# Altium schematic symbol library ADP_MyLib.SchLib: 203 symbols (part 3 of 4)
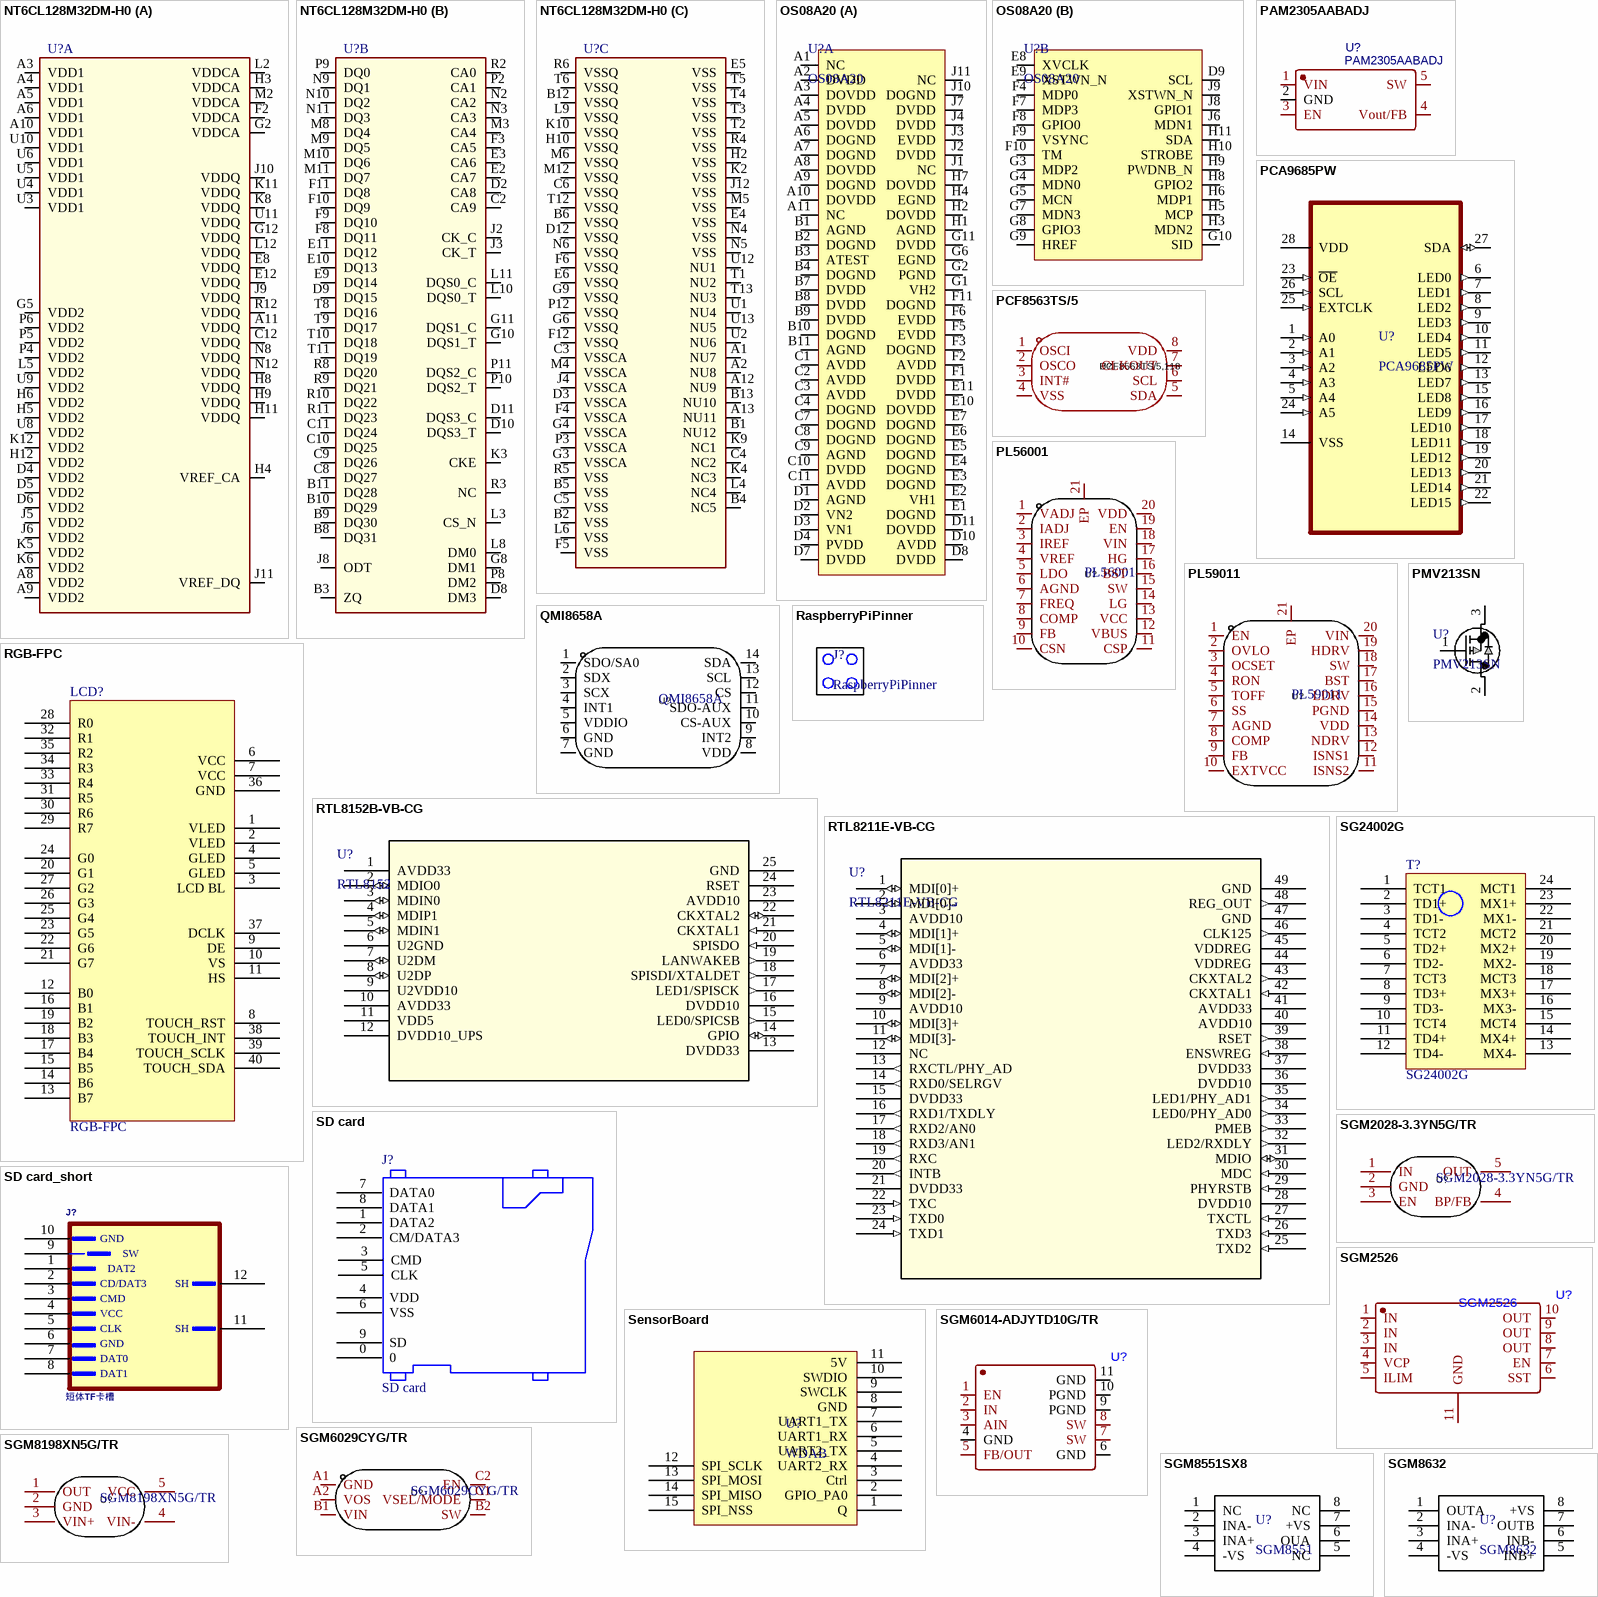
[diagram p24: symbols NT6CL128M32DM-H0 to SGM8632]

## SGM8198XN5G/TR
designator U?
差分检流运放; Manufacturer: SGMICRO(圣邦微); Name: SGM2028-3.3YN5G/TR; Add into BOM: yes; Output Type: 固定; Output Polarity: 正; Number of Outputs: 1; Maximum Input Voltage: 5.5V; Output Voltage: 3.3V; Dropout Voltage: 420mV@(500mA); Output Current: 500mA; Power Supply Rejection Ratio (PSRR): 77dB; Symbol: SGM2028-3.3YN5G/TR; Device: SGM2028-3.3YN5G/TR; LCSC Part Name: 正 Vin=5.5V Vout=3.3V 500mA 77dB; Supplier Part: C81088; Manufacturer Part: SGM2028-3.3YN5G/TR; Supplier Footprint: SOT-23-5; JLCPCB Part Class: Extended Part; Datasheet: https://atta.szlcsc.com/upload/public/pdf/source/20170704/1499151376719.pdf; Supplier: LCSC; Convert to PCB: yes
footprint SOT23-5
pins: 1 OUT, 2 GND, 3 VIN+, 4 VIN-, 5 VCC

## SGM8551SX8
designator U?, comment SGM8551
集成运放
footprint SOIC8
pins: 1 NC, 2 INA- (power), 3 INA+ (power), 4 -VS, 5 NC, 6 OUA, 7 +VS, 8 NC

## SGM8632
designator U?
LNA
footprint SOIC8
pins: 1 OUTA, 2 INA- (power), 3 INA+ (power), 4 -VS, 5 INB+, 6 INB-, 7 OUTB, 8 +VS

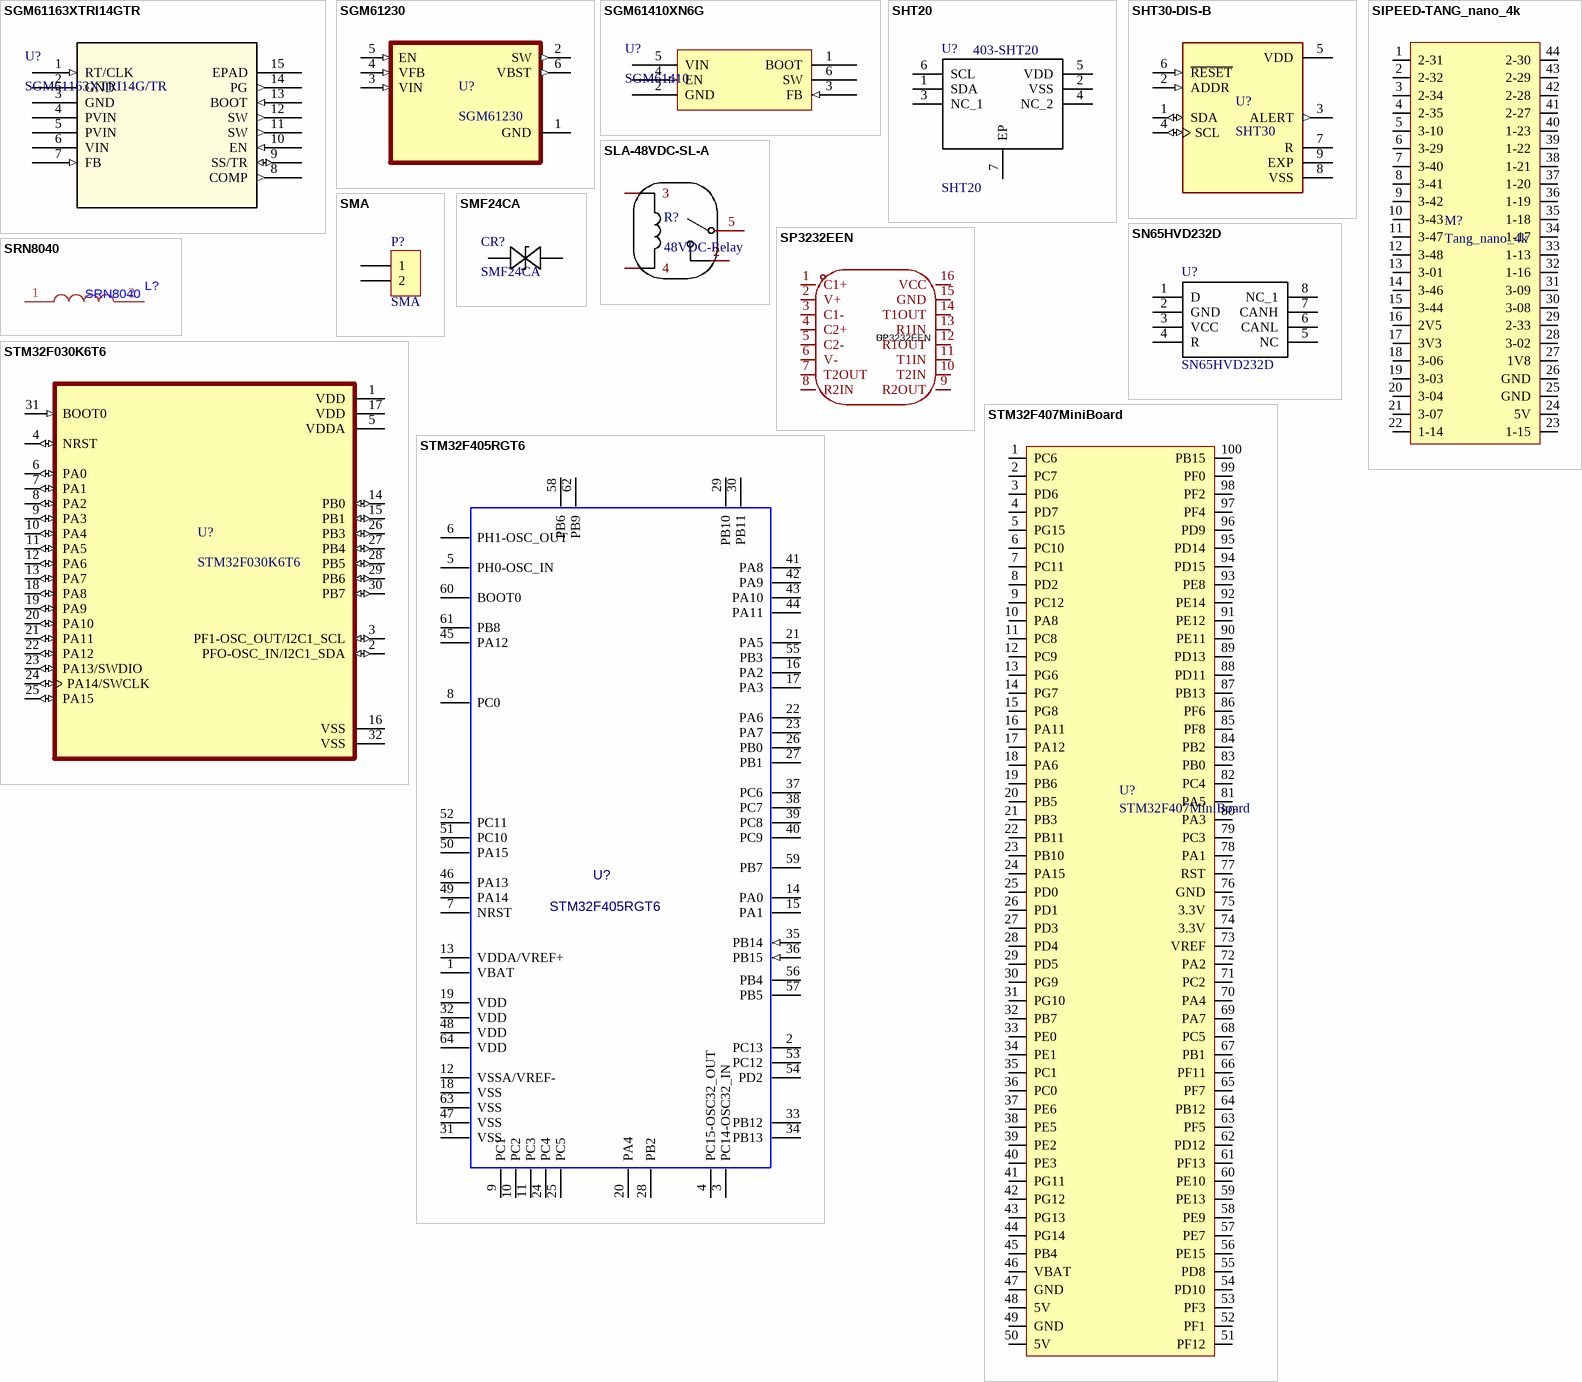
[diagram p14: symbols SGM61163XTRI14GTR to STM32F407MiniBoard]

## SGM61163XTRI14GTR
designator U?, comment SGM61163XTRI14G/TR
Buck; Mfr_Name: SG Micro; Type: DEV; Copyright: Copyright (C) 2023 Ultra Librarian. All rights reserved.; Manufacturer_Part_Number: SGM61163XTRI14G/TR; RefDes: RefDes
footprint TQFN14_SGM61163_SNC
pins: 1 RT/CLK (in), 2 GND (power), 3 GND (power), 4 PVIN (power), 5 PVIN (power), 6 VIN (power), 7 FB (in), 8 COMP (out), 9 SS/TR (io), 10 EN (in), 11 SW (out), 12 SW (out), 13 BOOT (in), 14 PG (out), 15 EPAD (power)

## SGM61230
designator U?
Buck，TPS565208国产替代; MP: TPS565208DDCR; MF: Texas Instruments; SnapEDA_Link: https://www.snapeda.com/parts/TPS565208DDCR/Texas%20Instruments/view-part/1474263/?ref=snap; Digi-Key_Part_Number: 296-48755-1-ND; Value: *; Check_prices: https://www.snapeda.com/parts/TPS565208DDCR/Texas%20Instruments/view-part/1474263/?ref=eda; Package: SOT-23-THN-6 Texas Instruments; Purchase-URL: https://pricing.snapeda.com/search/part/TPS565208DDCR/?ref=eda
footprint SOT23-6 (SOT-23/SC-74A; 5 Leads; Body 3.1 x 3 mm, inc. leads (LxW max))
pins: 1 GND (power), 2 SW (out), 3 VIN (in), 4 VFB (in), 5 EN (in), 6 VBST (out)

## SGM61410XN6G
designator U?, comment SGM61410
1.2MHz, 600mA, 42V Synchronous Buck Converter; ComponentLink1Description: Manufacturer Homepage; ComponentLink1URL: https://www.sg-micro.com/cn/product/SGM61410
footprint SOT23-6 (SOT-23/SC-74A; 5 Leads; Body 3.1 x 3 mm, inc. leads (LxW max))
pins: 1 BOOT (power), 2 GND (power), 3 FB (in), 4 EN (in), 5 VIN (power), 6 SW (power)

## SHT20
designator U?  Mouser Part Number: 403-SHT20
温湿度传感器; Manufacturer_Name: Sensirion; Datasheet Link: https://www.sensirion.com/fileadmin/user_upload/customers/sensirion/Dokumente/2_Humidity_Sensors/Sensirion_Humidity_Sensors_SHT20_Datasheet.pdf; Height: 1.1mm; Manufacturer_Part_Number: SHT20; Mouser Price/Stock: https://www.mouser.com/Search/Refine.aspx?Keyword=403-SHT20; RS Part Number: 1237351P; RS Price/Stock: http://uk.rs-online.com/web/p/products/1237351P
footprint SON100P300X300X110-7N
pins: 1 SDA, 2 VSS, 3 NC_1, 4 NC_2, 5 VDD, 6 SCL, 7 EP

## SHT30-DIS-B
designator U?, comment SHT30
温湿度传感器; MP: SHT30-DIS-B; Package: None; Price: None; Availability: Unavailable; Value: *
footprint DFN250X250X100-9N
pins: 1 SDA (io), 2 ADDR (in), 3 ALERT (out), 4 SCL (io), 5 VDD (power), 6 ~{RESET} (in), 7 R, 8 VSS, 9 EXP

## SIPEED-TANG_nano_4k
designator M?, comment Tang_nano_4k
TANG-nano开发板
footprint SIPEED-TANG_nano_4k
pins: 1 2-31, 2 2-32, 3 2-34, 4 2-35, 5 3-10, 6 3-29, 7 3-40, 8 3-41, 9 3-42, 10 3-43, 11 3-47, 12 3-48, 13 3-01, 14 3-46, 15 3-44, 16 2V5, 17 3V3, 18 3-06, 19 3-03, 20 3-04, 21 3-07, 22 1-14, 23 1-15, 24 5V, 25 GND, 26 GND, 27 1V8, 28 3-02, 29 2-33, 30 3-08, 31 3-09, 32 1-16, 33 1-13, 34 1-17, 35 1-18, 36 1-19, 37 1-20, 38 1-21, 39 1-22, 40 1-23, 41 2-27, 42 2-28, 43 2-29, 44 2-30

## SLA-48VDC-SL-A
designator R?, comment 48VDC-Relay
4/5脚继电器
footprint SLA-48VDC-SL-A
pins: 2, 3, 4, 5

## SMA
designator P?
射频接插件
footprint SMA-ANT (142-0701-801/806)
footprint SMA-H
footprint SMA-W
pins: 1, 2

## SMF24CA
designator CR?
TVS; Mfr_Name: Littelfuse Inc; Type: DEV; Copyright: Copyright (C) 2022 Ultra Librarian. All rights reserved.; Manufacturer_Part_Number: SMF24CA; RefDes: RefDes
footprint SOD123F
pins: 1, 2

## SN65HVD232D
designator U?
3.3-V CAN TRANSCEIVER; Manufacturer_Name: Texas Instruments; Datasheet Link: http://www.ti.com/lit/ds/symlink/sn65hvd232.pdf; Height: 1.75mm; Manufacturer_Part_Number: SN65HVD232D; Mouser Part Number: 595-SN65HVD232D; Mouser Price/Stock: https://www.mouser.com/Search/Refine.aspx?Keyword=595-SN65HVD232D; RS Part Number: 1977506; RS Price/Stock: http://uk.rs-online.com/web/p/products/1977506
footprint SOIC127P600X175-8N
pins: 1 D, 2 GND (power), 3 VCC (power), 4 R, 5 NC, 6 CANL, 7 CANH, 8 NC_1

## SP3232EEN
designator U?
Manufacturer: UMW(友台半导体); Add into BOM: yes; Types: 收发器; Driver/receiver: 2/2; Data Rate: 250Kbps; Supply Voltage: 3V~3.6V；4.5V~5.5V; Symbol: SP3232EEN; Device: SP3232EEN; LCSC Part Name: 3.0V至5.5V低功率多通道RS-232线收发器 使用0.1μF外部电容; Supplier Part: C2904739; Manufacturer Part: SP3232EEN; Supplier Footprint: SOP-16; JLCPCB Part Class: Extended Part; Datasheet: https://atta.szlcsc.com/upload/public/pdf/source/20240122/238E83A7FACD35D5900508085B93A751.pdf; Supplier: LCSC; Convert to PCB: yes; Operating Temperature: 0℃~+70℃
footprint SOP16 (SOP, 16-Leads, Body 9.90x3.90mm, Pitch 1.27mm, IPC Medium Density)
pins: 1 C1+, 2 V+, 3 C1-, 4 C2+, 5 C2-, 6 V-, 7 T2OUT, 8 R2IN, 9 R2OUT, 10 T2IN, 11 T1IN, 12 R1OUT, 13 R1IN, 14 T1OUT, 15 GND, 16 VCC

## SRN8040
designator L?
8040绕线功率电感
footprint SRN80408R2Y
pins: 1, 2

## STM32F030K6T6
designator U?
MF: STMicroelectronics; Check_prices: https://www.snapeda.com/parts/STM32F030K6T6/STMicroelectronics/view-part/?ref=eda; Digi-Key_Part_Number: 497-14046-ND; Package: LQFP-32 STMicroelectronics; MP: STM32F030K6T6; Value: *; SnapEDA_Link: https://www.snapeda.com/parts/STM32F030K6T6/STMicroelectronics/view-part/?ref=snap; Purchase-URL: https://pricing.snapeda.com/search/part/STM32F030K6T6/?ref=eda
footprint LQFP32N (QFP80P900X900X160-32N)
pins: 1 VDD (power), 2 PFO-OSC_IN/I2C1_SDA (io), 3 PF1-OSC_OUT/I2C1_SCL (io), 4 NRST (io), 5 VDDA (power), 6 PA0 (io), 7 PA1 (io), 8 PA2 (io), 9 PA3 (io), 10 PA4 (io), 11 PA5 (io), 12 PA6 (io), 13 PA7 (io), 14 PB0 (io), 15 PB1 (io), 16 VSS (power), 17 VDD (power), 18 PA8 (io), 19 PA9 (io), 20 PA10 (io), 21 PA11 (io), 22 PA12 (io), 23 PA13/SWDIO (io), 24 PA14/SWCLK (io), 25 PA15 (io), 26 PB3 (io), 27 PB4 (io), 28 PB5 (io), 29 PB6 (io), 30 PB7 (io), 31 BOOT0 (in), 32 VSS (power)

## STM32F405RGT6
designator U?
Part No: 3000015; PCB DECAL: STM32F107_LQFP64; Value: STM32F401RBT
footprint QFP50P1200X1200X160-64N
pins: 1 VBAT, 2 PC13, 3 PC14-OSC32_IN, 4 PC15-OSC32_OUT, 5 PH0-OSC_IN, 6 PH1-OSC_OUT, 7 NRST, 8 PC0, 9 PC1, 10 PC2, 11 PC3, 12 VSSA/VREF-, 13 VDDA/VREF+, 14 PA0, 15 PA1, 16 PA2, 17 PA3, 18 VSS, 19 VDD, 20 PA4, 21 PA5, 22 PA6, 23 PA7, 24 PC4, 25 PC5, 26 PB0, 27 PB1, 28 PB2, 29 PB10, 30 PB11, 31 VSS, 32 VDD, 33 PB12, 34 PB13, 35 PB14 (in), 36 PB15 (in), 37 PC6, 38 PC7, 39 PC8, 40 PC9, 41 PA8, 42 PA9, 43 PA10, 44 PA11, 45 PA12, 46 PA13, 47 VSS, 48 VDD, 49 PA14, 50 PA15, 51 PC10, 52 PC11, 53 PC12, 54 PD2, 55 PB3, 56 PB4, 57 PB5, 58 PB6, 59 PB7, 60 BOOT0, 61 PB8, 62 PB9, 63 VSS, 64 VDD

## STM32F407MiniBoard
designator U?
正点原子stm32f407核心板
footprint STM32F407MiniBoard
pins: 1 PC6, 2 PC7, 3 PD6, 4 PD7, 5 PG15, 6 PC10, 7 PC11, 8 PD2, 9 PC12, 10 PA8, 11 PC8, 12 PC9, 13 PG6, 14 PG7, 15 PG8, 16 PA11, 17 PA12, 18 PA6, 19 PB6, 20 PB5, 21 PB3, 22 PB11, 23 PB10, 24 PA15, 25 PD0, 26 PD1, 27 PD3, 28 PD4, 29 PD5, 30 PG9, 31 PG10, 32 PB7, 33 PE0, 34 PE1, 35 PC1, 36 PC0, 37 PE6, 38 PE5, 39 PE2, 40 PE3, 41 PG11, 42 PG12, 43 PG13, 44 PG14, 45 PB4, 46 VBAT, 47 GND, 48 5V, 49 GND, 50 5V, 51 PF12, 52 PF1, 53 PF3, 54 PD10, 55 PD8, 56 PE15, 57 PE7, 58 PE9, 59 PE13, 60 PE10, 61 PF13, 62 PD12, 63 PF5, 64 PB12, 65 PF7, 66 PF11, 67 PB1, 68 PC5, 69 PA7, 70 PA4, 71 PC2, 72 PA2, 73 VREF, 74 3.3V, 75 3.3V, 76 GND, 77 RST, 78 PA1, 79 PC3, 80 PA3, 81 PA5, 82 PC4, 83 PB0, 84 PB2, 85 PF8, 86 PF6, 87 PB13, 88 PD11, 89 PD13, 90 PE11, 91 PE12, 92 PE14, 93 PE8, 94 PD15, 95 PD14, 96 PD9, 97 PF4, 98 PF2, 99 PF0, 100 PB15

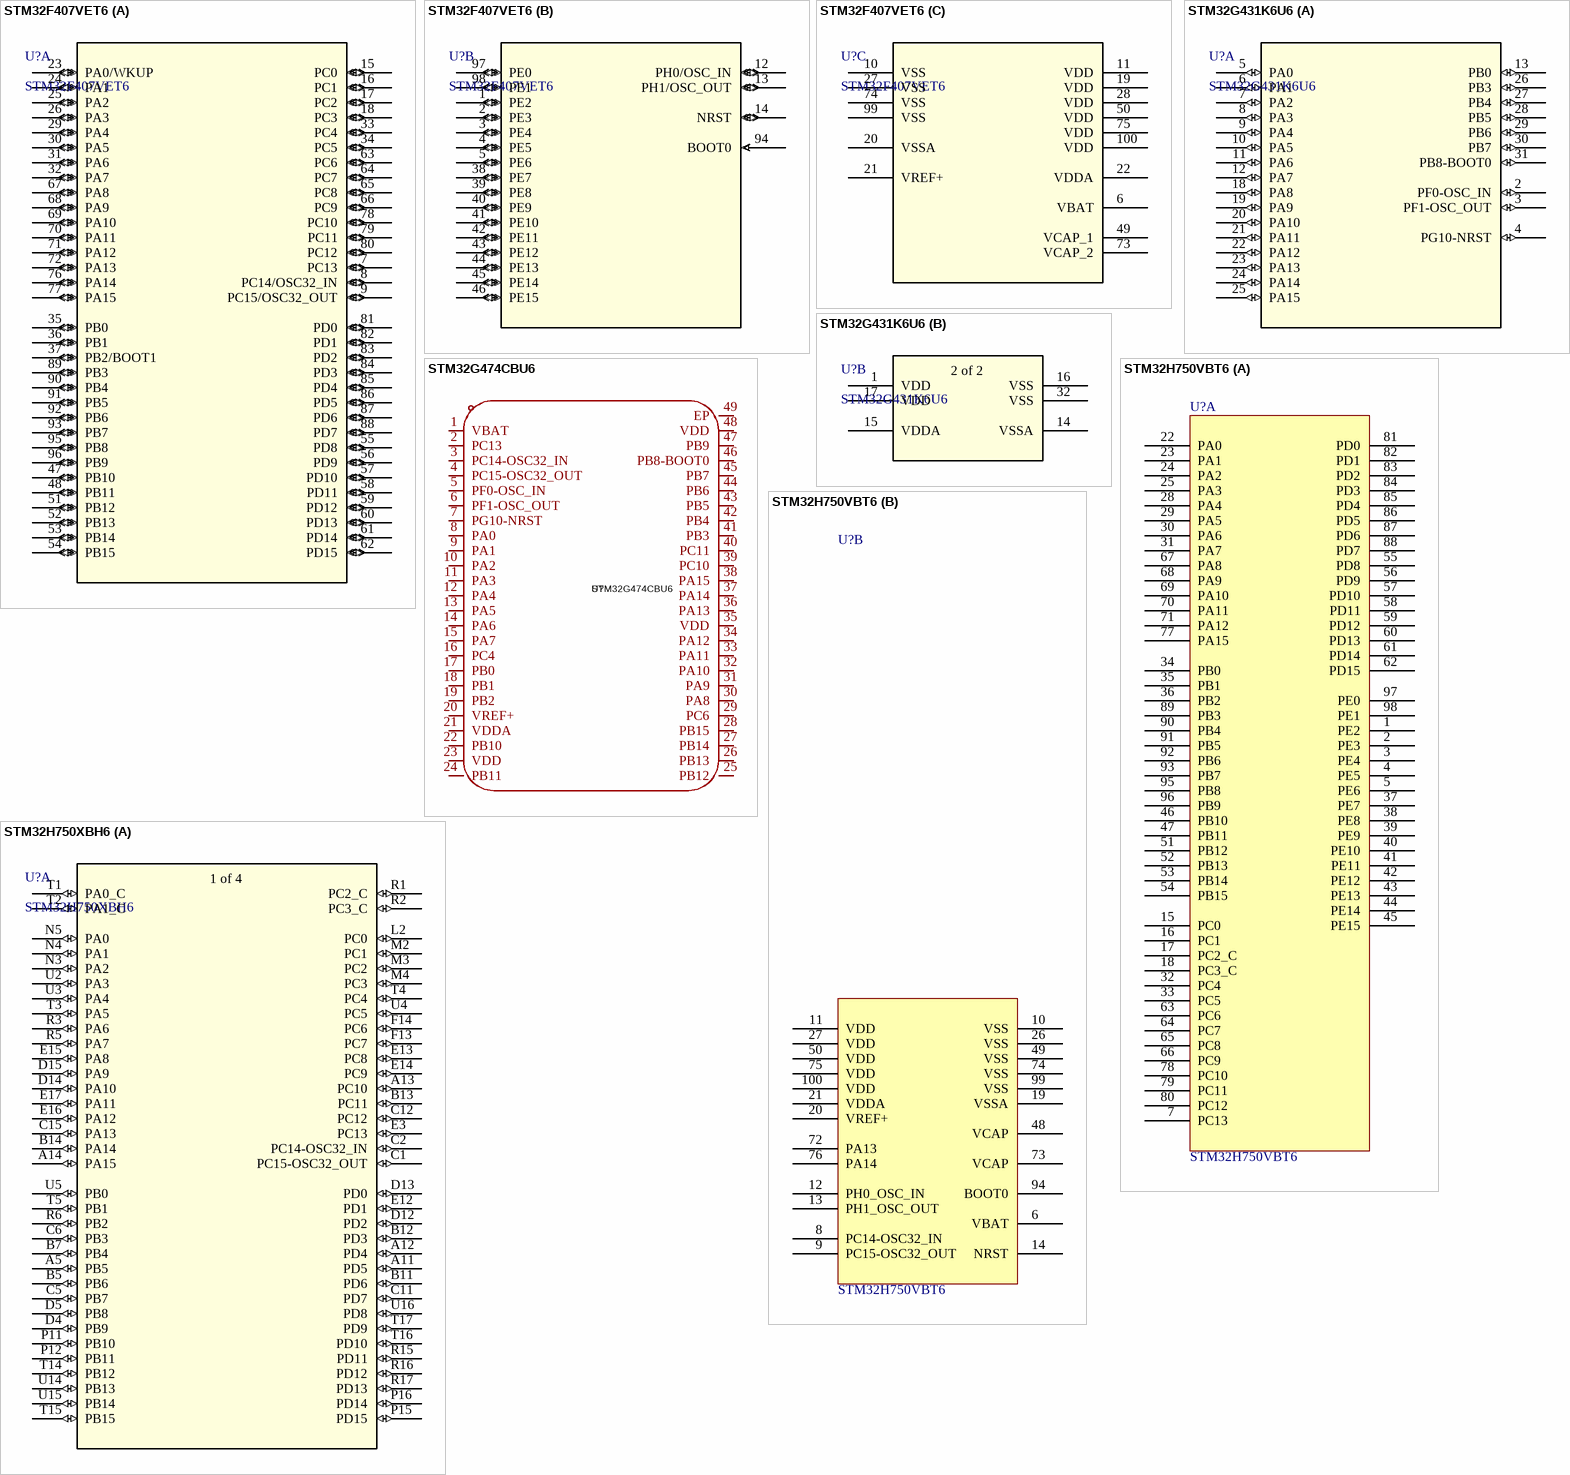
[diagram p15: symbols STM32F407VET6 to STM32H750XBH6]

## STM32F407VET6
designator U?
Mfr_Name: STMicroelectronics; RefDes: RefDes; Type: Type
footprint LQFP100-14x14mm
part A pins: 7 PC13 (io), 8 PC14/OSC32_IN (io), 9 PC15/OSC32_OUT (io), 15 PC0 (io), 16 PC1 (io), 17 PC2 (io), 18 PC3 (io), 23 PA0/WKUP (io), 24 PA1 (io), 25 PA2 (io), 26 PA3 (io), 29 PA4 (io), 30 PA5 (io), 31 PA6 (io), 32 PA7 (io), 33 PC4 (io), 34 PC5 (io), 35 PB0 (io), 36 PB1 (io), 37 PB2/BOOT1 (io), 47 PB10 (io), 48 PB11 (io), 51 PB12 (io), 52 PB13 (io), 53 PB14 (io), 54 PB15 (io), 55 PD8 (io), 56 PD9 (io), 57 PD10 (io), 58 PD11 (io), 59 PD12 (io), 60 PD13 (io), 61 PD14 (io), 62 PD15 (io), 63 PC6 (io), 64 PC7 (io), 65 PC8 (io), 66 PC9 (io), 67 PA8 (io), 68 PA9 (io), 69 PA10 (io), 70 PA11 (io), 71 PA12 (io), 72 PA13 (io), 76 PA14 (io), 77 PA15 (io), 78 PC10 (io), 79 PC11 (io), 80 PC12 (io), 81 PD0 (io), 82 PD1 (io), 83 PD2 (io), 84 PD3 (io), 85 PD4 (io), 86 PD5 (io), 87 PD6 (io), 88 PD7 (io), 89 PB3 (io), 90 PB4 (io), 91 PB5 (io), 92 PB6 (io), 93 PB7 (io), 95 PB8 (io), 96 PB9 (io)
part B pins: 1 PE2 (io), 2 PE3 (io), 3 PE4 (io), 4 PE5 (io), 5 PE6 (io), 12 PH0/OSC_IN (io), 13 PH1/OSC_OUT (io), 14 NRST (io), 38 PE7 (io), 39 PE8 (io), 40 PE9 (io), 41 PE10 (io), 42 PE11 (io), 43 PE12 (io), 44 PE13 (io), 45 PE14 (io), 46 PE15 (io), 94 BOOT0 (in), 97 PE0 (io), 98 PE1 (io)
part C pins: 6 VBAT (power), 10 VSS (power), 11 VDD (power), 19 VDD (power), 20 VSSA (power), 21 VREF+ (power), 22 VDDA (power), 27 VSS (power), 28 VDD (power), 49 VCAP_1 (power), 50 VDD (power), 73 VCAP_2 (power), 74 VSS (power), 75 VDD (power), 99 VSS (power), 100 VDD (power)

## STM32G431K6U6
designator U?
Mfr_Name: STMicroelectronics; RefDes: RefDes; Type: Type
footprint UFQFPN-32
part A pins: 2 PF0-OSC_IN (io), 3 PF1-OSC_OUT (io), 4 PG10-NRST (io), 5 PA0 (io), 6 PA1 (io), 7 PA2 (io), 8 PA3 (io), 9 PA4 (io), 10 PA5 (io), 11 PA6 (io), 12 PA7 (io), 13 PB0 (io), 18 PA8 (io), 19 PA9 (io), 20 PA10 (io), 21 PA11 (io), 22 PA12 (io), 23 PA13 (io), 24 PA14 (io), 25 PA15 (io), 26 PB3 (io), 27 PB4 (io), 28 PB5 (io), 29 PB6 (io), 30 PB7 (io), 31 PB8-BOOT0 (io)
part B pins: 1 VDD (power), 14 VSSA (power), 15 VDDA (power), 16 VSS (power), 17 VDD (power), 32 VSS (power)
part B text: 2 of 2

## STM32G474CBU6
designator U?
Manufacturer: ST(意法半导体); Add into BOM: yes; Program Storage Size: 128KB; GPIO Ports Number: 42; Operating Voltage Range: 1.71V~3.6V; CPU Maximum Speed: 170MHz; Program Memory Type: FLASH; ADC (Bit): 12bit; Peripheral/Function: PWM；PWM; Watchdog: 有; Symbol: STM32G474CBU6; Device: STM32G474CBU6; LCSC Part Name: 带DSP和FPU的170MHz主流ARM Cortex-M4 MCU，具有128 KB Flash存储器、数学加速器、高分辨率定时器和高模拟电平集成; Supplier Part: C1341771; Manufacturer Part: STM32G474CBU6; Supplier Footprint: UFQFPN-48(7x7); JLCPCB Part Class: Extended Part; Datasheet: https://atta.szlcsc.com/upload/public/pdf/source/20210601/070C5CED5EB45737871E6667B39F1293.pdf; Supplier: LCSC; Convert to PCB: yes; CPU Core: -; RAM Size: 128KB; Operating Temperature Range: -40℃~+85℃; DAC (Bit): 12bit; PWM (Bit): -; Universal Serial Bus: -; Internal Comparator: -; communication protocol: -; Real-Time Clock: -; Infrared Data Association: 有; Low-Voltage Detect: 有; CCP Capture/Compare: -; Secure Digital Input and Output: -; Direct Memory Access: 有; Internal Oscillator: 有
footprint UFQFPN-48_L7.0-W7.0-P0.50-BL-EP5.6
pins: 1 VBAT, 2 PC13, 3 PC14-OSC32_IN, 4 PC15-OSC32_OUT, 5 PF0-OSC_IN, 6 PF1-OSC_OUT, 7 PG10-NRST, 8 PA0, 9 PA1, 10 PA2, 11 PA3, 12 PA4, 13 PA5, 14 PA6, 15 PA7, 16 PC4, 17 PB0, 18 PB1, 19 PB2, 20 VREF+, 21 VDDA, 22 PB10, 23 VDD, 24 PB11, 25 PB12, 26 PB13, 27 PB14, 28 PB15, 29 PC6, 30 PA8, 31 PA9, 32 PA10, 33 PA11, 34 PA12, 35 VDD, 36 PA13, 37 PA14, 38 PA15, 39 PC10, 40 PC11, 41 PB3, 42 PB4, 43 PB5, 44 PB6, 45 PB7, 46 PB8-BOOT0, 47 PB9, 48 VDD, 49 EP

## STM32H750VBT6
designator U?
footprint F-QFP14x14-G100/P.5N (QFP; 100 Leads; Body 14 x 14 mm; Pitch 0.5 mm)
part A pins: 1 PE2, 2 PE3, 3 PE4, 4 PE5, 5 PE6, 7 PC13, 15 PC0, 16 PC1, 17 PC2_C, 18 PC3_C, 22 PA0, 23 PA1, 24 PA2, 25 PA3, 28 PA4, 29 PA5, 30 PA6, 31 PA7, 32 PC4, 33 PC5, 34 PB0, 35 PB1, 36 PB2, 37 PE7, 38 PE8, 39 PE9, 40 PE10, 41 PE11, 42 PE12, 43 PE13, 44 PE14, 45 PE15, 46 PB10, 47 PB11, 51 PB12, 52 PB13, 53 PB14, 54 PB15, 55 PD8, 56 PD9, 57 PD10, 58 PD11, 59 PD12, 60 PD13, 61 PD14, 62 PD15, 63 PC6, 64 PC7, 65 PC8, 66 PC9, 67 PA8, 68 PA9, 69 PA10, 70 PA11, 71 PA12, 77 PA15, 78 PC10, 79 PC11, 80 PC12, 81 PD0, 82 PD1, 83 PD2, 84 PD3, 85 PD4, 86 PD5, 87 PD6, 88 PD7, 89 PB3, 90 PB4, 91 PB5, 92 PB6, 93 PB7, 95 PB8, 96 PB9, 97 PE0, 98 PE1
part B pins: 6 VBAT, 8 PC14-OSC32_IN, 9 PC15-OSC32_OUT, 10 VSS, 11 VDD, 12 PH0_OSC_IN, 13 PH1_OSC_OUT, 14 NRST, 19 VSSA, 20 VREF+, 21 VDDA, 26 VSS, 27 VDD, 48 VCAP, 49 VSS, 50 VDD, 72 PA13, 73 VCAP, 74 VSS, 75 VDD, 76 PA14, 94 BOOT0, 99 VSS, 100 VDD

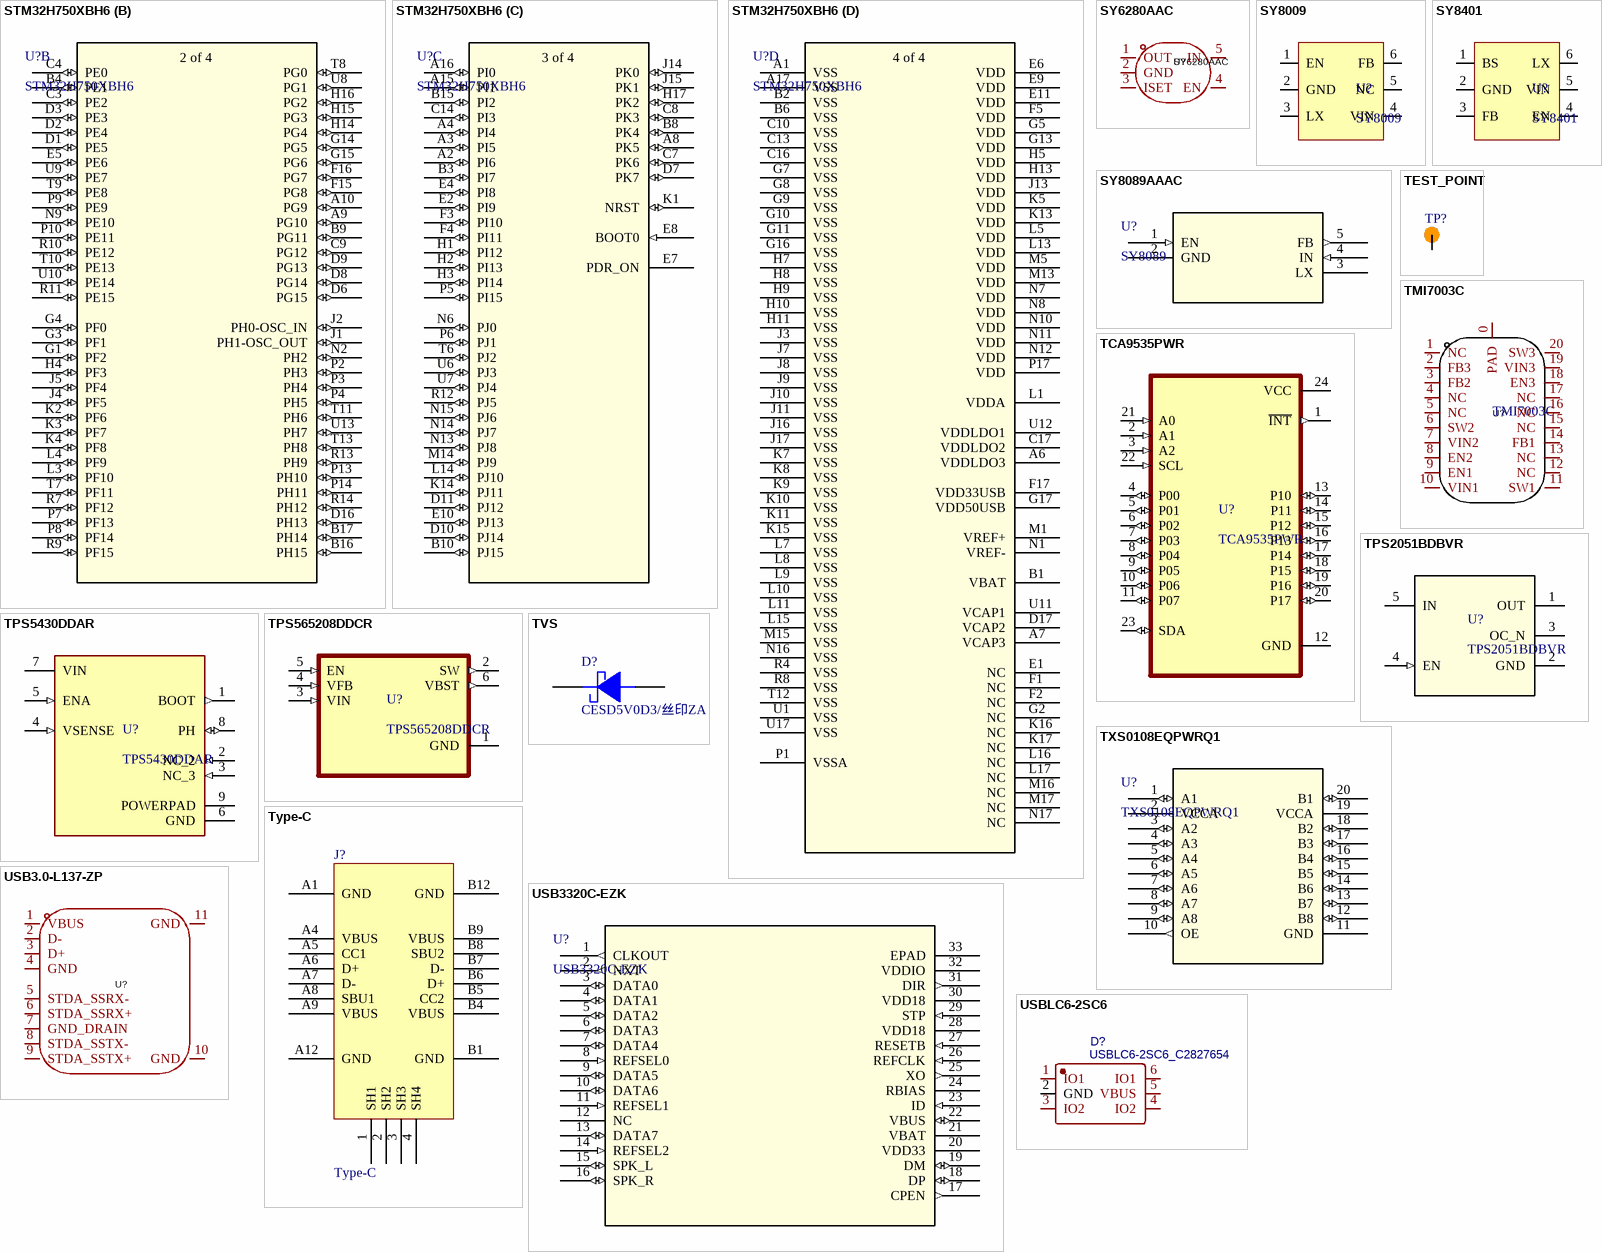
[diagram p16: symbols STM32H750XBH6 to USBLC6-2SC6]

## STM32H750XBH6
designator U?
Mfr_Name: STMicroelectronics; RefDes: RefDes; Type: Type
footprint TFBGA 14X14X1.2 P 0.8 240+25L
part A pins: A5 PB5 (io), A11 PD5 (io), A12 PD4 (io), A13 PC10 (io), A14 PA15 (io), B5 PB6 (io), B7 PB4 (io), B11 PD6 (io), B12 PD3 (io), B13 PC11 (io), B14 PA14 (io), C1 PC15-OSC32_OUT (io), C2 PC14-OSC32_IN (io), C5 PB7 (io), C6 PB3 (io), C11 PD7 (io), C12 PC12 (io), C15 PA13 (io), D4 PB9 (io), D5 PB8 (io), D12 PD2 (io), D13 PD0 (io), D14 PA10 (io), D15 PA9 (io), E3 PC13 (io), E12 PD1 (io), E13 PC8 (io), E14 PC9 (io), E15 PA8 (io), E16 PA12 (io), E17 PA11 (io), F13 PC7 (io), F14 PC6 (io), L2 PC0 (io), M2 PC1 (io), M3 PC2 (io), M4 PC3 (io), N3 PA2 (io), N4 PA1 (io), N5 PA0 (io), P11 PB10 (io), P12 PB11 (io), P15 PD15 (io), P16 PD14 (io), R1 PC2_C (io), R2 PC3_C (io), R3 PA6 (io), R5 PA7 (io), R6 PB2 (io), R15 PD11 (io), R16 PD12 (io), R17 PD13 (io), T1 PA0_C (io), T2 PA1_C (io), T3 PA5 (io), T4 PC4 (io), T5 PB1 (io), T14 PB12 (io), T15 PB15 (io), T16 PD10 (io), T17 PD9 (io), U2 PA3 (io), U3 PA4 (io), U4 PC5 (io), U5 PB0 (io), U14 PB13 (io), U15 PB14 (io), U16 PD8 (io)
part B pins: A9 PG10 (io), A10 PG9 (io), B4 PE1 (io), B9 PG11 (io), B16 PH15 (io), B17 PH14 (io), C3 PE2 (io), C4 PE0 (io), C9 PG12 (io), D1 PE5 (io), D2 PE4 (io), D3 PE3 (io), D6 PG15 (io), D8 PG14 (io), D9 PG13 (io), D16 PH13 (io), E5 PE6 (io), F15 PG8 (io), F16 PG7 (io), G1 PF2 (io), G3 PF1 (io), G4 PF0 (io), G14 PG5 (io), G15 PG6 (io), H4 PF3 (io), H14 PG4 (io), H15 PG3 (io), H16 PG2 (io), J1 PH1-OSC_OUT (io), J2 PH0-OSC_IN (io), J4 PF5 (io), J5 PF4 (io), K2 PF6 (io), K3 PF7 (io), K4 PF8 (io), L3 PF10 (io), L4 PF9 (io), N2 PH2 (io), N9 PE10 (io), P2 PH3 (io), P3 PH4 (io), P4 PH5 (io), P7 PF13 (io), P8 PF14 (io), P9 PE9 (io), P10 PE11 (io), P13 PH10 (io), P14 PH11 (io), R7 PF12 (io), R9 PF15 (io), R10 PE12 (io), R11 PE15 (io), R13 PH9 (io), R14 PH12 (io), T7 PF11 (io), T8 PG0 (io), T9 PE8 (io), T10 PE13 (io), T11 PH6 (io), T13 PH8 (io), U8 PG1 (io), U9 PE7 (io), U10 PE14 (io), U13 PH7 (io)
part C pins: A2 PI6 (io), A3 PI5 (io), A4 PI4 (io), A8 PK5 (io), A15 PI1 (io), A16 PI0 (io), B3 PI7 (io), B8 PK4 (io), B10 PJ15 (io), B15 PI2 (io), C7 PK6 (io), C8 PK3 (io), C14 PI3 (io), D7 PK7 (io), D10 PJ14 (io), D11 PJ12 (io), E2 PI9 (io), E4 PI8 (io), E7 PDR_ON, E8 BOOT0 (in), E10 PJ13 (io), F3 PI10 (io), F4 PI11 (io), H1 PI12 (io), H2 PI13 (io), H3 PI14 (io), H17 PK2 (io), J14 PK0 (io), J15 PK1 (io), K1 NRST (io), K14 PJ11 (io), L14 PJ10 (io), M14 PJ9 (io), N6 PJ0 (io), N13 PJ8 (io), N14 PJ7 (io), N15 PJ6 (io), P5 PI15 (io), P6 PJ1 (io), R12 PJ5 (io), T6 PJ2 (io), U6 PJ3 (io), U7 PJ4 (io)
part D pins: A1 VSS (power), A6 VDDLDO3 (power), A7 VCAP3 (power), A17 VSS (power), B1 VBAT (power), B2 VSS (power), B6 VSS (power), C10 VSS (power), C13 VSS (power), C16 VSS (power), C17 VDDLDO2 (power), D17 VCAP2 (power), E1 NC, E6 VDD (power), E9 VDD (power), E11 VDD (power), F1 NC, F2 NC, F5 VDD (power), F17 VDD33USB (power), G2 NC, G5 VDD (power), G7 VSS (power), G8 VSS (power), G9 VSS (power), G10 VSS (power), G11 VSS (power), G13 VDD (power), G16 VSS (power), G17 VDD50USB (power), H5 VDD (power), H7 VSS (power), H8 VSS (power), H9 VSS (power), H10 VSS (power), H11 VSS (power), H13 VDD (power), J3 VSS (power), J7 VSS (power), J8 VSS (power), J9 VSS (power), J10 VSS (power), J11 VSS (power), J13 VDD (power), J16 VSS (power), J17 VSS (power), K5 VDD (power), K7 VSS (power), K8 VSS (power), K9 VSS (power), K10 VSS (power), K11 VSS (power), K13 VDD (power), K15 VSS (power), K16 NC, K17 NC, L1 VDDA (power), L5 VDD (power), L7 VSS (power), L8 VSS (power), L9 VSS (power), L10 VSS (power), L11 VSS (power), L13 VDD (power), L15 VSS (power), L16 NC, L17 NC, M1 VREF+ (power), M5 VDD (power), M13 VDD (power), M15 VSS (power), M16 NC, M17 NC, N1 VREF- (power), N7 VDD (power), N8 VDD (power), N10 VDD (power), N11 VDD (power), N12 VDD (power), N16 VSS (power), N17 NC, P1 VSSA (power), P17 VDD (power), R4 VSS (power), R8 VSS (power), T12 VSS (power), U1 VSS (power), U11 VCAP1 (power), U12 VDDLDO1 (power), U17 VSS (power)
part A text: 1 of 4
part B text: 2 of 4
part C text: 3 of 4
part D text: 4 of 4

## SY6280AAC
designator U?
Manufacturer: silergy(矽力杰); Device: SY6280AAC_C55136; Add into BOM: yes; Symbol: SY6280AAC; LCSC Part Name: SY6280AAC; Supplier Part: C55136; Manufacturer Part: SY6280AAC; Supplier Footprint: SOT-23-5; JLCPCB Part Class: Extended Part; Datasheet: https://atta.szlcsc.com/upload/public/pdf/source/20161108/1478586372822.pdf; Supplier: LCSC; Convert to PCB: yes
footprint SOT23-5
pins: 1 OUT, 2 GND, 3 ISET, 4 EN, 5 IN

## SY8009
designator U?
footprint SY8009
pins: 1 EN, 2 GND, 3 LX, 4 VIN, 5 NC, 6 FB

## SY8089AAAC
designator U?, comment SY8089
引脚兼容SY8088; Mfr_Name: Silergy; RefDes: RefDes; Type: Type
footprint SOT23-5
pins: 1 EN (in), 2 GND (power), 3 LX, 4 IN (in), 5 FB (out)

## SY8401
designator U?
footprint SOT23-6 (SOT-23/SC-74A; 5 Leads; Body 3.1 x 3 mm, inc. leads (LxW max))
pins: 1 BS, 2 GND, 3 FB, 4 EN, 5 VIN, 6 LX

## TCA9535PWR
designator U?
Remote 16-Bit I2C and SMBus, Low-Power I/O Expander With Interrupt Output and Config Registers 24-TSSOP -40 to 85; MF: Texas Instruments; Texas_Instruments-Purchase-URL: https://snapeda.com/shop?store=Texas+Instruments&id=1237891; SnapEDA_Link: https://www.snapeda.com/parts/TCA9535PWR/Texas%20Instruments/view-part/1237891/?ref=snap; Availability: Good; Price: None; MP: TCA9535PWR; DigiKey-Purchase-URL: https://snapeda.com/shop?store=DigiKey&id=1237891; Package: TSSOP-24 Texas Instruments; Mouser-Purchase-URL: https://snapeda.com/shop?store=Mouser&id=1237891; Arrow_Electronics-Purchase-URL: https://snapeda.com/shop?store=Arrow+Electronics&id=1237891; Value: *
footprint SOP65P640X120-24N
pins: 1 ~{INT} (out), 2 A1 (in), 3 A2 (in), 4 P00 (io), 5 P01 (io), 6 P02 (io), 7 P03 (io), 8 P04 (io), 9 P05 (io), 10 P06 (io), 11 P07 (io), 12 GND (power), 13 P10 (io), 14 P11 (io), 15 P12 (io), 16 P13 (io), 17 P14 (io), 18 P15 (io), 19 P16 (io), 20 P17 (io), 21 A0 (in), 22 SCL (in), 23 SDA (io), 24 VCC (power)

## TEST_POINT
designator TP?  (no BOM)
footprint TEST_POINT_1MM (1mm直径测试点)
pins: 0

## TMI7003C
designator U?
3路输出PMIC; Manufacturer: TMI(拓尔微); Add into BOM: yes; Name: TMI7003C; Symbol: TMI7003C; Device: TMI7003C; LCSC Part Name: TMI7003C; Supplier Part: C840566; Manufacturer Part: TMI7003C; Supplier Footprint: QFN-20-EP(3x3); JLCPCB Part Class: Extended Part; Datasheet: https://atta.szlcsc.com/upload/public/pdf/source/20201016/C840566_E3A3F320FBEA4BB3544D33FCA2602C8C.pdf; Supplier: LCSC; Convert to PCB: yes
footprint QFN20_3X3 (L3.0-W3.0-P0.40-BL-EP1.9)
pins: 0 PAD, 1 NC, 2 FB3, 3 FB2, 4 NC, 5 NC, 6 SW2, 7 VIN2, 8 EN2, 9 EN1, 10 VIN1, 11 SW1, 12 NC, 13 NC, 14 FB1, 15 NC, 16 NC, 17 NC, 18 EN3, 19 VIN3, 20 SW3

## TPS2051BDBVR
designator U?
1A Buck控制器; Mfr_Name: Texas Instruments; Alternate_PartNumber: TPS2051BDBVT; CompType: IC; Type: DEV; RefDes: RefDes; Copyright: Copyright (C) 2022 Ultra Librarian. All rights reserved.; Manufacturer_Part_Number: TPS2051BDBVR; Application_BuildNumber: *; PartNumber: TPS2051BDBVR; PackageReference: DBV0005A; MountType: SMT; RoHS: Y; Manufacturer: Texas Instruments
footprint DBV0005A_N
pins: 1 OUT (power), 2 GND (power), 3 OC_N (oc), 4 EN (in), 5 IN (power)

## TPS5430DDAR
designator U?
5.5V to 36V Input, 3A, 500kHz Step-Down Converter 8-SO PowerPAD -40 to 125; MF: Texas Instruments; Texas_Instruments-Purchase-URL: https://snapeda.com/shop?store=Texas+Instruments&id=423058; Value: *; Arrow_Electronics-Purchase-URL: https://snapeda.com/shop?store=Arrow+Electronics&id=423058; MP: TPS5430DDAR; DigiKey-Purchase-URL: https://snapeda.com/shop?store=DigiKey&id=423058; Package: HSOIC-8 Texas Instruments; SnapEDA_Link: https://www.snapeda.com/parts/TPS5430DDAR/Texas%20Instruments/view-part/423058/?ref=snap; Mouser-Purchase-URL: https://snapeda.com/shop?store=Mouser&id=423058; Digi-Key_Part_Number: 296-26988-1-ND
footprint TPS5430DDAR
pins: 1 BOOT (out), 2 NC_2 (in), 3 NC_3 (in), 4 VSENSE (in), 5 ENA (in), 6 GND (power), 7 VIN (power), 8 PH (io), 9 POWERPAD (power)

## TPS565208DDCR
designator U?
4.5V to 17V, 5A Synchronous Step-Down Voltage Regulator in SOT23 6-SOT-23-THIN -40 to 125; MF: Texas Instruments; SnapEDA_Link: https://www.snapeda.com/parts/TPS565208DDCR/Texas%20Instruments/view-part/1474263/?ref=snap; MP: TPS565208DDCR; Digi-Key_Part_Number: 296-48755-1-ND; Value: *; Check_prices: https://www.snapeda.com/parts/TPS565208DDCR/Texas%20Instruments/view-part/1474263/?ref=eda; Package: SOT-23-THN-6 Texas Instruments; Purchase-URL: https://pricing.snapeda.com/search/part/TPS565208DDCR/?ref=eda
footprint SOT23-6 (SOT-23/SC-74A; 5 Leads; Body 3.1 x 3 mm, inc. leads (LxW max))
pins: 1 GND (power), 2 SW (out), 3 VIN (in), 4 VFB (in), 5 EN (in), 6 VBST (out)

## TVS
designator D?, comment CESD5V0D3/丝印ZA
footprint SMA (DO-214AC(2010))
footprint SMB (DO-214AA)
footprint SMC (DO-214AB(2114))
footprint SOD123 (1206)
footprint SOD123F
footprint SOD323 (0805)
footprint SOD323F (SODFL, 2-Leads, Body 1.30x2.60mm, IPC Medium Density)
footprint SOD-882
footprint SOD80 (LL34)
footprint SOD523 (0603)
footprint SOD-923
pins: 1 +, 2 -

## TXS0108EQPWRQ1
designator U?
8路电平转换器; Mfr_Name: Texas Instruments; Copyright: Copyright (C) 2022 Ultra Librarian. All rights reserved.; Manufacturer_Part_Number: TXS0108EQPWRQ1; RefDes: RefDes; Type: DEV
footprint PW20_TEX
pins: 1 A1 (io), 2 VCCA (power), 3 A2 (io), 4 A3 (io), 5 A4 (io), 6 A5 (io), 7 A6 (io), 8 A7 (io), 9 A8 (io), 10 OE (out), 11 GND (power), 12 B8 (io), 13 B7 (io), 14 B6 (io), 15 B5 (io), 16 B4 (io), 17 B3 (io), 18 B2 (io), 19 VCCA (power), 20 B1 (io)

## Type-C
designator J?
USB Type-C 插座 非全功能
footprint Type-C (16pin)
pins: 1 SH1, 2 SH2, 3 SH3, 4 SH4, A1 GND, A4 VBUS, A5 CC1, A6 D+, A7 D-, A8 SBU1, A9 VBUS, A12 GND, B1 GND, B4 VBUS, B5 CC2, B6 D+, B7 D-, B8 SBU2, B9 VBUS, B12 GND

## USB3.0-L137-ZP
designator U?, comment HC-USB3.0-L137-ZP  (value not drawn)
USB Type-A 插座; Manufacturer: HC(虹成电子); Add into BOM: yes; Gender: 母; Number of Contacts: 9P; Number of Ports: 1; Current Rating - Power (Max): 1.5A; Symbol: HC-USB3.0-L137-ZP; Device: HC-USB3.0-L137-ZP; LCSC Part Name: Type-A 母 直插; Supplier Part: C19273972; Manufacturer Part: HC-USB3.0-L137-ZP; Supplier Footprint: 插件; JLCPCB Part Class: Extended Part; Datasheet: https://atta.szlcsc.com/upload/public/pdf/source/20231201/0F800543CF86D8CE36FE945FAE5BF5E8.pdf; Supplier: LCSC; Convert to PCB: yes; Connector Type: Type-A; Standard: USB 3.0; Mounting Style: 直插; Operating Temperature Range: -25℃~+70℃
footprint USB-3.0-A-TH_HC-USB3.0-L137-ZP
pins: 1 VBUS, 2 D-, 3 D+, 4 GND, 5 STDA_SSRX-, 6 STDA_SSRX+, 7 GND_DRAIN, 8 STDA_SSTX-, 9 STDA_SSTX+, 10 GND, 11 GND

## USB3320C-EZK
designator U?
USB ULPI PHY; Mfr_Name: Microchip; Copyright: Copyright (C) 2022 Ultra Librarian. All rights reserved.; Manufacturer_Part_Number: USB3320C-EZK; RefDes: RefDes; Type: DEV
footprint QFN32_5X5MC_MCH
pins: 1 CLKOUT (out), 2 NXT (out), 3 DATA0 (io), 4 DATA1 (io), 5 DATA2 (io), 6 DATA3 (io), 7 DATA4 (io), 8 REFSEL0 (in), 9 DATA5 (io), 10 DATA6 (io), 11 REFSEL1 (in), 12 NC, 13 DATA7 (io), 14 REFSEL2 (in), 15 SPK_L (io), 16 SPK_R (io), 17 CPEN (out), 18 DP (io), 19 DM (io), 20 VDD33 (power), 21 VBAT (power), 22 VBUS (io), 23 ID (in), 24 RBIAS, 25 XO (out), 26 REFCLK (in), 27 RESETB (in), 28 VDD18 (power), 29 STP (in), 30 VDD18 (power), 31 DIR (out), 32 VDDIO (power), 33 EPAD

## USBLC6-2SC6
designator D?, comment USBLC6-2SC6_C2827654
双路ESD; BOM_Manufacturer: TECH PUBLIC(台舟电子); Contributor: LCSC; BOM_Supplier: LCSC; BOM_Supplier Part: C2827654; BOM_Manufacturer Part: USBLC6-2SC6; spicePre: D; spiceSymbolName: USBLC6-2SC6_C2827654
footprint USBLC6-2SC6
pins: 1 IO1, 2 GND, 3 IO2, 4 IO2, 5 VBUS, 6 IO1

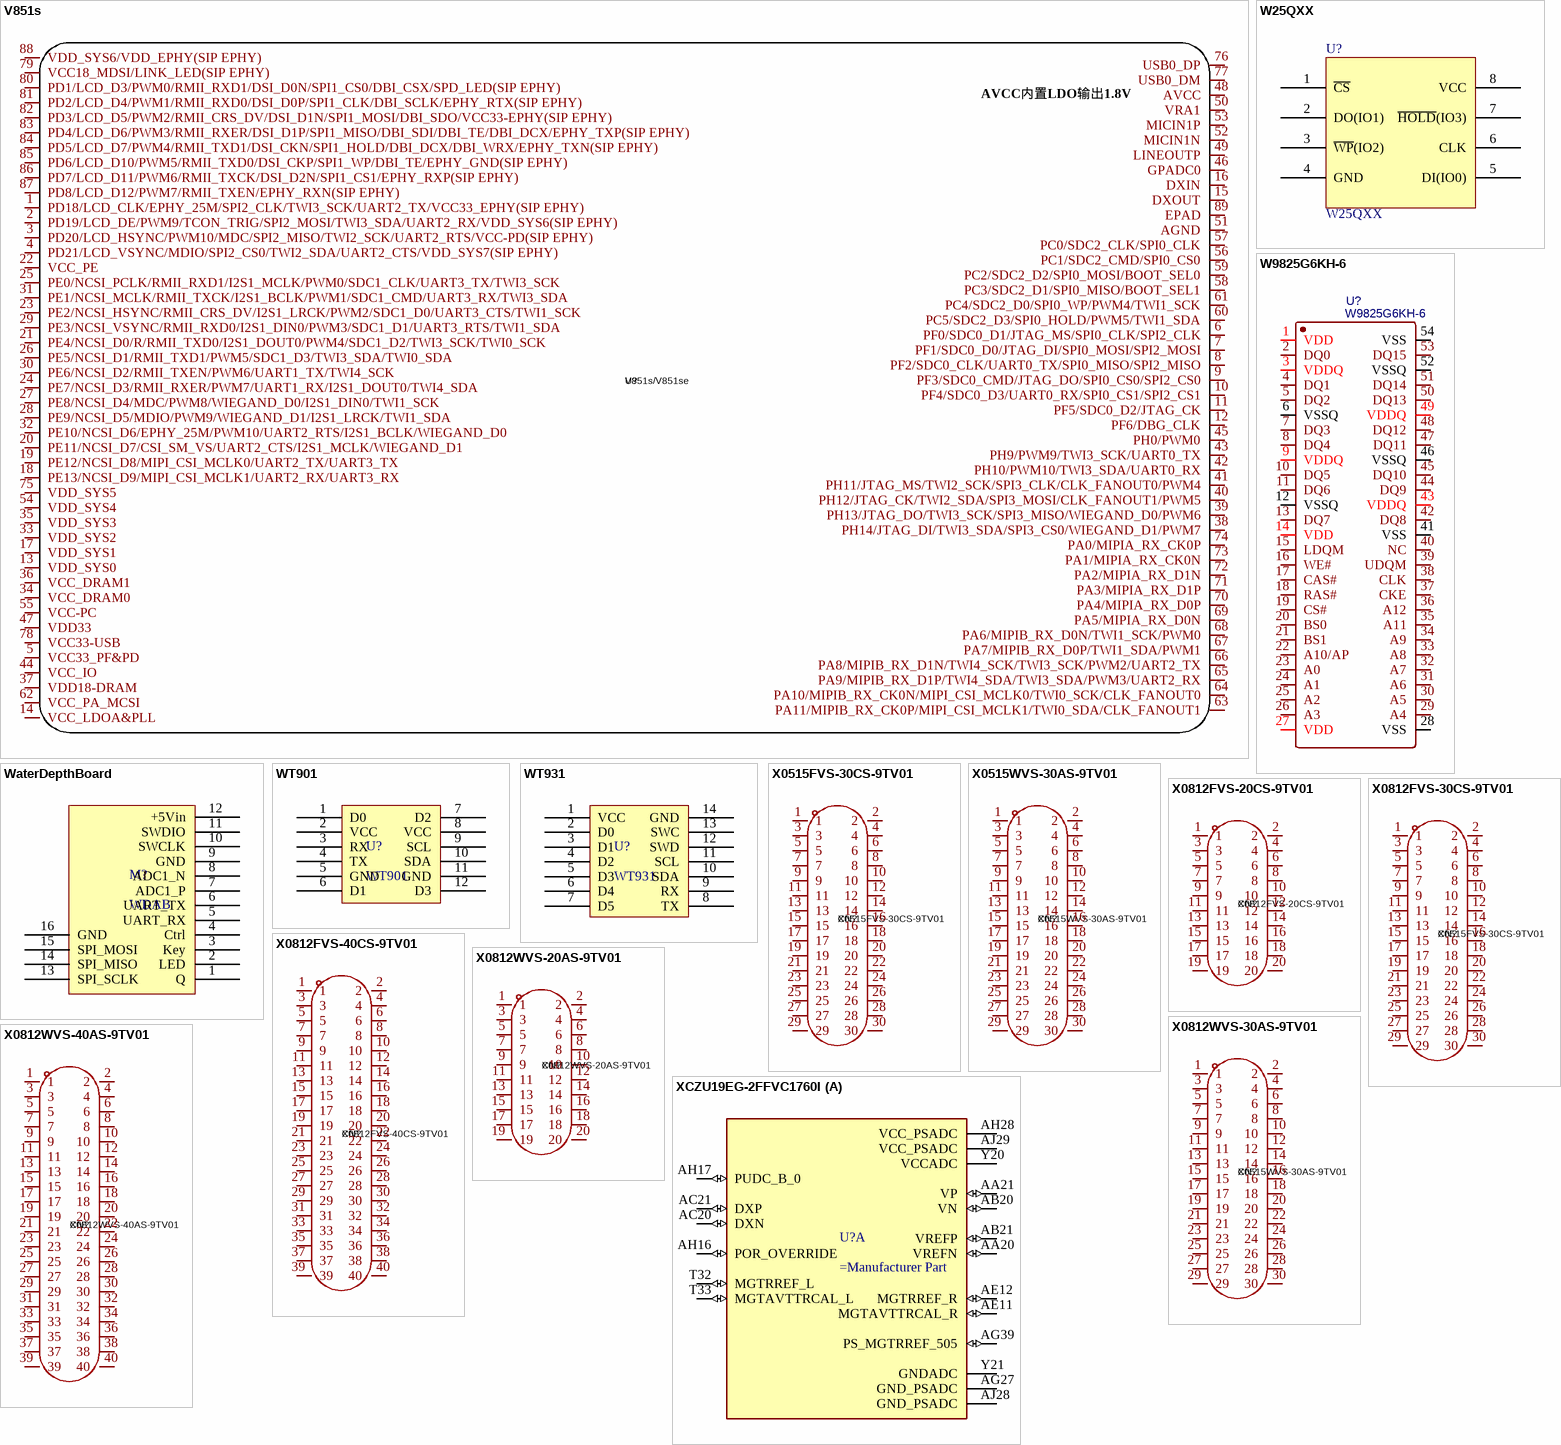
[diagram p17: symbols V851s to XCZU19EG-2FFVC1760I]

## V851s
designator U?, comment V851s/V851se
全志V851; Manufacturer: Allwinner(全志); Name: V851s; Add into BOM: yes; Symbol: V851S; Device: V851s; LCSC Part Name: Allwinner V851s; Supplier Part: C5365286; Manufacturer Part: V851s; Supplier Footprint: QFN-88; JLCPCB Part Class: Extended Part; Datasheet: https://atta.szlcsc.com/upload/public/pdf/source/20230321/D7FD75EFFC81CFF72930135A0F42A003.pdf; Supplier: LCSC; Convert to PCB: yes
footprint QFN-88_L9.0-W9.0-P0.35-TL-EP6.5
pins: 1 PD18/LCD_CLK/EPHY_25M/SPI2_CLK/TWI3_SCK/UART2_TX/VCC33_EPHY(SIP EPHY), 2 PD19/LCD_DE/PWM9/TCON_TRIG/SPI2_MOSI/TWI3_SDA/UART2_RX/VDD_SYS6(SIP EPHY), 3 PD20/LCD_HSYNC/PWM10/MDC/SPI2_MISO/TWI2_SCK/UART2_RTS/VCC-PD(SIP EPHY), 4 PD21/LCD_VSYNC/MDIO/SPI2_CS0/TWI2_SDA/UART2_CTS/VDD_SYS7(SIP EPHY), 5 VCC33_PF&PD, 6 PF0/SDC0_D1/JTAG_MS/SPI0_CLK/SPI2_CLK, 7 PF1/SDC0_D0/JTAG_DI/SPI0_MOSI/SPI2_MOSI, 8 PF2/SDC0_CLK/UART0_TX/SPI0_MISO/SPI2_MISO, 9 PF3/SDC0_CMD/JTAG_DO/SPI0_CS0/SPI2_CS0, 10 PF4/SDC0_D3/UART0_RX/SPI0_CS1/SPI2_CS1, 11 PF5/SDC0_D2/JTAG_CK, 12 PF6/DBG_CLK, 13 VDD_SYS0, 14 VCC_LDOA&PLL, 15 DXOUT, 16 DXIN, 17 VDD_SYS1, 18 PE13/NCSI_D9/MIPI_CSI_MCLK1/UART2_RX/UART3_RX, 19 PE12/NCSI_D8/MIPI_CSI_MCLK0/UART2_TX/UART3_TX, 20 PE11/NCSI_D7/CSI_SM_VS/UART2_CTS/I2S1_MCLK/WIEGAND_D1, 21 PE4/NCSI_D0/R/RMII_TXD0/I2S1_DOUT0/PWM4/SDC1_D2/TWI3_SCK/TWI0_SCK, 22 VCC_PE, 23 PE2/NCSI_HSYNC/RMII_CRS_DV/I2S1_LRCK/PWM2/SDC1_D0/UART3_CTS/TWI1_SCK, 24 PE7/NCSI_D3/RMII_RXER/PWM7/UART1_RX/I2S1_DOUT0/TWI4_SDA, 25 PE0/NCSI_PCLK/RMII_RXD1/I2S1_MCLK/PWM0/SDC1_CLK/UART3_TX/TWI3_SCK, 26 PE5/NCSI_D1/RMII_TXD1/PWM5/SDC1_D3/TWI3_SDA/TWI0_SDA, 27 PE8/NCSI_D4/MDC/PWM8/WIEGAND_D0/I2S1_DIN0/TWI1_SCK, 28 PE9/NCSI_D5/MDIO/PWM9/WIEGAND_D1/I2S1_LRCK/TWI1_SDA, 29 PE3/NCSI_VSYNC/RMII_RXD0/I2S1_DIN0/PWM3/SDC1_D1/UART3_RTS/TWI1_SDA, 30 PE6/NCSI_D2/RMII_TXEN/PWM6/UART1_TX/TWI4_SCK, 31 PE1/NCSI_MCLK/RMII_TXCK/I2S1_BCLK/PWM1/SDC1_CMD/UART3_RX/TWI3_SDA, 32 PE10/NCSI_D6/EPHY_25M/PWM10/UART2_RTS/I2S1_BCLK/WIEGAND_D0, 33 VDD_SYS2, 34 VCC_DRAM0, 35 VDD_SYS3, 36 VCC_DRAM1, 37 VDD18-DRAM, 38 PH14/JTAG_DI/TWI3_SDA/SPI3_CS0/WIEGAND_D1/PWM7, 39 PH13/JTAG_DO/TWI3_SCK/SPI3_MISO/WIEGAND_D0/PWM6, 40 PH12/JTAG_CK/TWI2_SDA/SPI3_MOSI/CLK_FANOUT1/PWM5, 41 PH11/JTAG_MS/TWI2_SCK/SPI3_CLK/CLK_FANOUT0/PWM4, 42 PH10/PWM10/TWI3_SDA/UART0_RX, 43 PH9/PWM9/TWI3_SCK/UART0_TX, 44 VCC_IO, 45 PH0/PWM0, 46 GPADC0, 47 VDD33, 48 AVCC, 49 LINEOUTP, 50 VRA1, 51 AGND, 52 MICIN1N, 53 MICIN1P, 54 VDD_SYS4, 55 VCC-PC, 56 PC1/SDC2_CMD/SPI0_CS0, 57 PC0/SDC2_CLK/SPI0_CLK, 58 PC3/SDC2_D1/SPI0_MISO/BOOT_SEL1, 59 PC2/SDC2_D2/SPI0_MOSI/BOOT_SEL0, 60 PC5/SDC2_D3/SPI0_HOLD/PWM5/TWI1_SDA, 61 PC4/SDC2_D0/SPI0_WP/PWM4/TWI1_SCK, 62 VCC_PA_MCSI, 63 PA11/MIPIB_RX_CK0P/MIPI_CSI_MCLK1/TWI0_SDA/CLK_FANOUT1, 64 PA10/MIPIB_RX_CK0N/MIPI_CSI_MCLK0/TWI0_SCK/CLK_FANOUT0, 65 PA9/MIPIB_RX_D1P/TWI4_SDA/TWI3_SDA/PWM3/UART2_RX, 66 PA8/MIPIB_RX_D1N/TWI4_SCK/TWI3_SCK/PWM2/UART2_TX, 67 PA7/MIPIB_RX_D0P/TWI1_SDA/PWM1, 68 PA6/MIPIB_RX_D0N/TWI1_SCK/PWM0, 69 PA5/MIPIA_RX_D0N, 70 PA4/MIPIA_RX_D0P, 71 PA3/MIPIA_RX_D1P, 72 PA2/MIPIA_RX_D1N, 73 PA1/MIPIA_RX_CK0N, 74 PA0/MIPIA_RX_CK0P, 75 VDD_SYS5, 76 USB0_DP, 77 USB0_DM, 78 VCC33-USB, 79 VCC18_MDSI/LINK_LED(SIP EPHY), 80 PD1/LCD_D3/PWM0/RMII_RXD1/DSI_D0N/SPI1_CS0/DBI_CSX/SPD_LED(SIP EPHY), 81 PD2/LCD_D4/PWM1/RMII_RXD0/DSI_D0P/SPI1_CLK/DBI_SCLK/EPHY_RTX(SIP EPHY), 82 PD3/LCD_D5/PWM2/RMII_CRS_DV/DSI_D1N/SPI1_MOSI/DBI_SDO/VCC33-EPHY(SIP EPHY), 83 PD4/LCD_D6/PWM3/RMII_RXER/DSI_D1P/SPI1_MISO/DBI_SDI/DBI_TE/DBI_DCX/EPHY_TXP(SIP EPHY), 84 PD5/LCD_D7/PWM4/RMII_TXD1/DSI_CKN/SPI1_HOLD/DBI_DCX/DBI_WRX/EPHY_TXN(SIP EPHY), 85 PD6/LCD_D10/PWM5/RMII_TXD0/DSI_CKP/SPI1_WP/DBI_TE/EPHY_GND(SIP EPHY), 86 PD7/LCD_D11/PWM6/RMII_TXCK/DSI_D2N/SPI1_CS1/EPHY_RXP(SIP EPHY), 87 PD8/LCD_D12/PWM7/RMII_TXEN/EPHY_RXN(SIP EPHY), 88 VDD_SYS6/VDD_EPHY(SIP EPHY), 89 EPAD
text: AVCC内置LDO输出1.8V

## W25QXX
designator U?
SPI Flash
footprint SOIC-W-8
footprint SOP-8_L4.9-W3.9-P1.27-LS6.0-BL
pins: 1 ~{CS}, 2 DO(IO1), 3 ~{WP}(IO2), 4 GND, 5 DI(IO0), 6 CLK, 7 ~{HOLD}(IO3), 8 VCC

## W9825G6KH-6
designator U?
SDRAM; BOM_Manufacturer: WINBOND; BOM_Supplier: LCSC; BOM_Manufacturer Part: W9825G6KH-6; BOM_Supplier Part: C62246; BOM_JLCPCB Part Class: Extended Part; spicePre: U; spiceSymbolName: W9825G6KH-6
footprint W9825G6KH
pins: 1 VDD, 2 DQ0, 3 VDDQ, 4 DQ1, 5 DQ2, 6 VSSQ, 7 DQ3, 8 DQ4, 9 VDDQ, 10 DQ5, 11 DQ6, 12 VSSQ, 13 DQ7, 14 VDD, 15 LDQM, 16 WE#, 17 CAS#, 18 RAS#, 19 CS#, 20 BS0, 21 BS1, 22 A10/AP, 23 A0, 24 A1, 25 A2, 26 A3, 27 VDD, 28 VSS, 29 A4, 30 A5, 31 A6, 32 A7, 33 A8, 34 A9, 35 A11, 36 A12, 37 CKE, 38 CLK, 39 UDQM, 40 NC, 41 VSS, 42 DQ8, 43 VDDQ, 44 DQ9, 45 DQ10, 46 VSSQ, 47 DQ11, 48 DQ12, 49 VDDQ, 50 DQ13, 51 DQ14, 52 VSSQ, 53 DQ15, 54 VSS

## WaterDepthBoard
designator M?, comment WDAB
水深解算板
footprint WaterDepthBoard
pins: 1 Q, 2 LED, 3 Key, 4 Ctrl, 5 UART_RX, 6 UART_TX, 7 ADC1_P, 8 ADC1_N, 9 GND, 10 SWCLK, 11 SWDIO, 12 +5Vin, 13 SPI_SCLK, 14 SPI_MISO, 15 SPI_MOSI, 16 GND

## WT901
designator U?
维特智能WT901九轴模块
footprint WT901 (维特智能九轴模块)
pins: 1 D0, 2 VCC, 3 RX, 4 TX, 5 GND, 6 D1, 7 D2, 8 VCC, 9 SCL, 10 SDA, 11 GND, 12 D3

## WT931
designator U?
维特智能WT931九轴模块
footprint WT931
pins: 1 VCC, 2 D0, 3 D1, 4 D2, 5 D3, 6 D4, 7 D5, 8 TX, 9 RX, 10 SDA, 11 SCL, 12 SWD, 13 SWC, 14 GND

## X0515FVS-30CS-9TV01
designator CN?
30PIN BTB母座 P=0.5; Manufacturer: XKB Connection(中国星坤); Symbol: X0515FVS-30CS-LPV01; Add into BOM: yes; Pitch: 0.5mm; Gender: 母; Current Rating (Max): 300mA; Device: X0515FVS-30CS-9TV01; LCSC Part Name: 间距:0.5mm PIN:30P 母 立贴; Supplier Part: C2925333; Manufacturer Part: X0515FVS-30CS-9TV01; Supplier Footprint: SMD,P=0.5mm; JLCPCB Part Class: Extended Part; Datasheet: https://atta.szlcsc.com/upload/public/pdf/source/20211215/E98E2647E5E212E3F4CD91EF14604315.pdf; Supplier: LCSC; Convert to PCB: yes; Number of Pins: 30P; Mounting Style: 立贴; Number of Rows: 2; Operating Temperature Range: -25℃~+85℃
footprint CONN-SMD_30P-P0.50_XKB_X0515FVS-30XS-LPV01
pins: 1, 2, 3, 4, 5, 6, 7, 8, 9, 10, 11, 12, 13, 14, 15, 16, 17, 18, 19, 20, 21, 22, 23, 24, 25, 26, 27, 28, 29, 30

## X0515WVS-30AS-9TV01
designator CN?
30PIN BTB公座 P=0.5; Manufacturer: XKB Connection(中国星坤); Add into BOM: yes; Symbol: x0515wvs-30as-9tv01; Device: X0515WVS-30AS-9TV01; LCSC Part Name: X0515WVS-30AS-9TV01; Supplier Part: C5291087; Manufacturer Part: X0515WVS-30AS-9TV01; Supplier Footprint: SMD,P=0.5mm; JLCPCB Part Class: Extended Part; Datasheet: https://atta.szlcsc.com/upload/public/pdf/source/20230322/799458BD6C4FD55C4E5EA2F58467759D.pdf; Supplier: LCSC; Convert to PCB: yes
footprint conn-smd_30p-p0.50_xkb_x0515wvs-30as-9tv01
pins: 1, 2, 3, 4, 5, 6, 7, 8, 9, 10, 11, 12, 13, 14, 15, 16, 17, 18, 19, 20, 21, 22, 23, 24, 25, 26, 27, 28, 29, 30

## X0812FVS-20CS-9TV01
designator CN?
20PIN BTB母座 P=0.8; Manufacturer: XKB Connectivity(中国星坤); Add into BOM: yes; Pitch: 0.8mm; Gender: 母; Symbol: X0812FVS-20CS-9TV01; Device: X0812FVS-20CS-9TV01; LCSC Part Name: 间距:0.8mm 母; Supplier Part: C5138048; Manufacturer Part: X0812FVS-20CS-9TV01; Supplier Footprint: SMD,P=0.8mm; JLCPCB Part Class: Extended Part; Datasheet: https://atta.szlcsc.com/upload/public/pdf/source/20220816/2F3C9393197CA6C4D441693E1B26256F.pdf; Supplier: LCSC; Convert to PCB: yes
footprint CONN-SMD_20P-P0.80_XKB_X0812FVS-20CS-9TV01
pins: 1, 2, 3, 4, 5, 6, 7, 8, 9, 10, 11, 12, 13, 14, 15, 16, 17, 18, 19, 20

## X0812FVS-30CS-9TV01
designator CN?, comment X0515FVS-30CS-9TV01
30PIN BTB母座 P=0.8; Manufacturer: XKB Connection(中国星坤); Symbol: X0515FVS-30CS-LPV01; Add into BOM: yes; Pitch: 0.5mm; Gender: 母; Current Rating (Max): 300mA; Device: X0515FVS-30CS-9TV01; LCSC Part Name: 间距:0.5mm PIN:30P 母 立贴; Supplier Part: C2925333; Manufacturer Part: X0515FVS-30CS-9TV01; Supplier Footprint: SMD,P=0.5mm; JLCPCB Part Class: Extended Part; Datasheet: https://atta.szlcsc.com/upload/public/pdf/source/20211215/E98E2647E5E212E3F4CD91EF14604315.pdf; Supplier: LCSC; Convert to PCB: yes; Number of Pins: 30P; Mounting Style: 立贴; Number of Rows: 2; Operating Temperature Range: -25℃~+85℃
footprint CONN-SMD_30P-P0.80_BTB_0.8_2X15_N
pins: 1, 2, 3, 4, 5, 6, 7, 8, 9, 10, 11, 12, 13, 14, 15, 16, 17, 18, 19, 20, 21, 22, 23, 24, 25, 26, 27, 28, 29, 30

## X0812FVS-40CS-9TV01
designator CN?
40PIN BTB母座 P=0.8; Manufacturer: XKB Connection(中国星坤); Add into BOM: yes; Pitch: 0.8mm; Gender: 母; Symbol: X0812FVS-40CS-9TV01; Device: X0812FVS-40CS-9TV01; LCSC Part Name: 间距:0.8mm 母; Supplier Part: C5138050; Manufacturer Part: X0812FVS-40CS-9TV01; Supplier Footprint: SMD,P=0.8mm; JLCPCB Part Class: Extended Part; Datasheet: https://atta.szlcsc.com/upload/public/pdf/source/20220816/5A9D25851C6F42F962F271F0699C3766.pdf; Supplier: LCSC; Convert to PCB: yes
footprint CONN-SMD_40P-P0.80_BTB_0.8_2X20_N
pins: 1, 2, 3, 4, 5, 6, 7, 8, 9, 10, 11, 12, 13, 14, 15, 16, 17, 18, 19, 20, 21, 22, 23, 24, 25, 26, 27, 28, 29, 30, 31, 32, 33, 34, 35, 36, 37, 38, 39, 40

## X0812WVS-20AS-9TV01
designator CN?
20PIN BTB公座 P=0.8; Manufacturer: XKB Connectivity(中国星坤); Add into BOM: yes; Pitch: 0.8mm; Gender: 公; Symbol: X0812WVS-20AS-9TV01; Device: X0812WVS-20AS-9TV01; LCSC Part Name: 间距:0.8mm 公; Supplier Part: C5138047; Manufacturer Part: X0812WVS-20AS-9TV01; Supplier Footprint: SMD,P=0.8mm; JLCPCB Part Class: Extended Part; Datasheet: https://atta.szlcsc.com/upload/public/pdf/source/20220816/F33CDF2C099D0D442F3D79A3B2A2DA3A.pdf; Supplier: LCSC; Convert to PCB: yes
footprint CONN-SMD_20P-P0.80_XKB_X0812WVS-20AS-9TV01
pins: 1, 2, 3, 4, 5, 6, 7, 8, 9, 10, 11, 12, 13, 14, 15, 16, 17, 18, 19, 20

## X0812WVS-30AS-9TV01
designator CN?, comment X0515WVS-30AS-9TV01
30PIN BTB公座 P=0.8; Manufacturer: XKB Connection(中国星坤); Add into BOM: yes; Symbol: x0515wvs-30as-9tv01; Device: X0515WVS-30AS-9TV01; LCSC Part Name: X0515WVS-30AS-9TV01; Supplier Part: C5291087; Manufacturer Part: X0515WVS-30AS-9TV01; Supplier Footprint: SMD,P=0.5mm; JLCPCB Part Class: Extended Part; Datasheet: https://atta.szlcsc.com/upload/public/pdf/source/20230322/799458BD6C4FD55C4E5EA2F58467759D.pdf; Supplier: LCSC; Convert to PCB: yes
footprint CONN-SMD_30P-P0.80_XKB_X0812WVS-30AS-9TV01
pins: 1, 2, 3, 4, 5, 6, 7, 8, 9, 10, 11, 12, 13, 14, 15, 16, 17, 18, 19, 20, 21, 22, 23, 24, 25, 26, 27, 28, 29, 30

## X0812WVS-40AS-9TV01
designator CN?
40PIN BTB公座 P=0.8; Manufacturer: XKB Connectivity(中国星坤); Add into BOM: yes; Pitch: 0.8mm; Gender: 公; Symbol: X0812WVS-40AS-9TV01; Device: X0812WVS-40AS-9TV01; LCSC Part Name: 间距:0.8mm 公; Supplier Part: C5138049; Manufacturer Part: X0812WVS-40AS-9TV01; Supplier Footprint: SMD,P=0.8mm; JLCPCB Part Class: Extended Part; Datasheet: https://atta.szlcsc.com/upload/public/pdf/source/20220816/418008182F011A1A0E509388E31EC3A2.pdf; Supplier: LCSC; Convert to PCB: yes
footprint CONN-SMD_40P-P0.80_XKB_X0812WVS-40AS-9TV01
pins: 1, 2, 3, 4, 5, 6, 7, 8, 9, 10, 11, 12, 13, 14, 15, 16, 17, 18, 19, 20, 21, 22, 23, 24, 25, 26, 27, 28, 29, 30, 31, 32, 33, 34, 35, 36, 37, 38, 39, 40

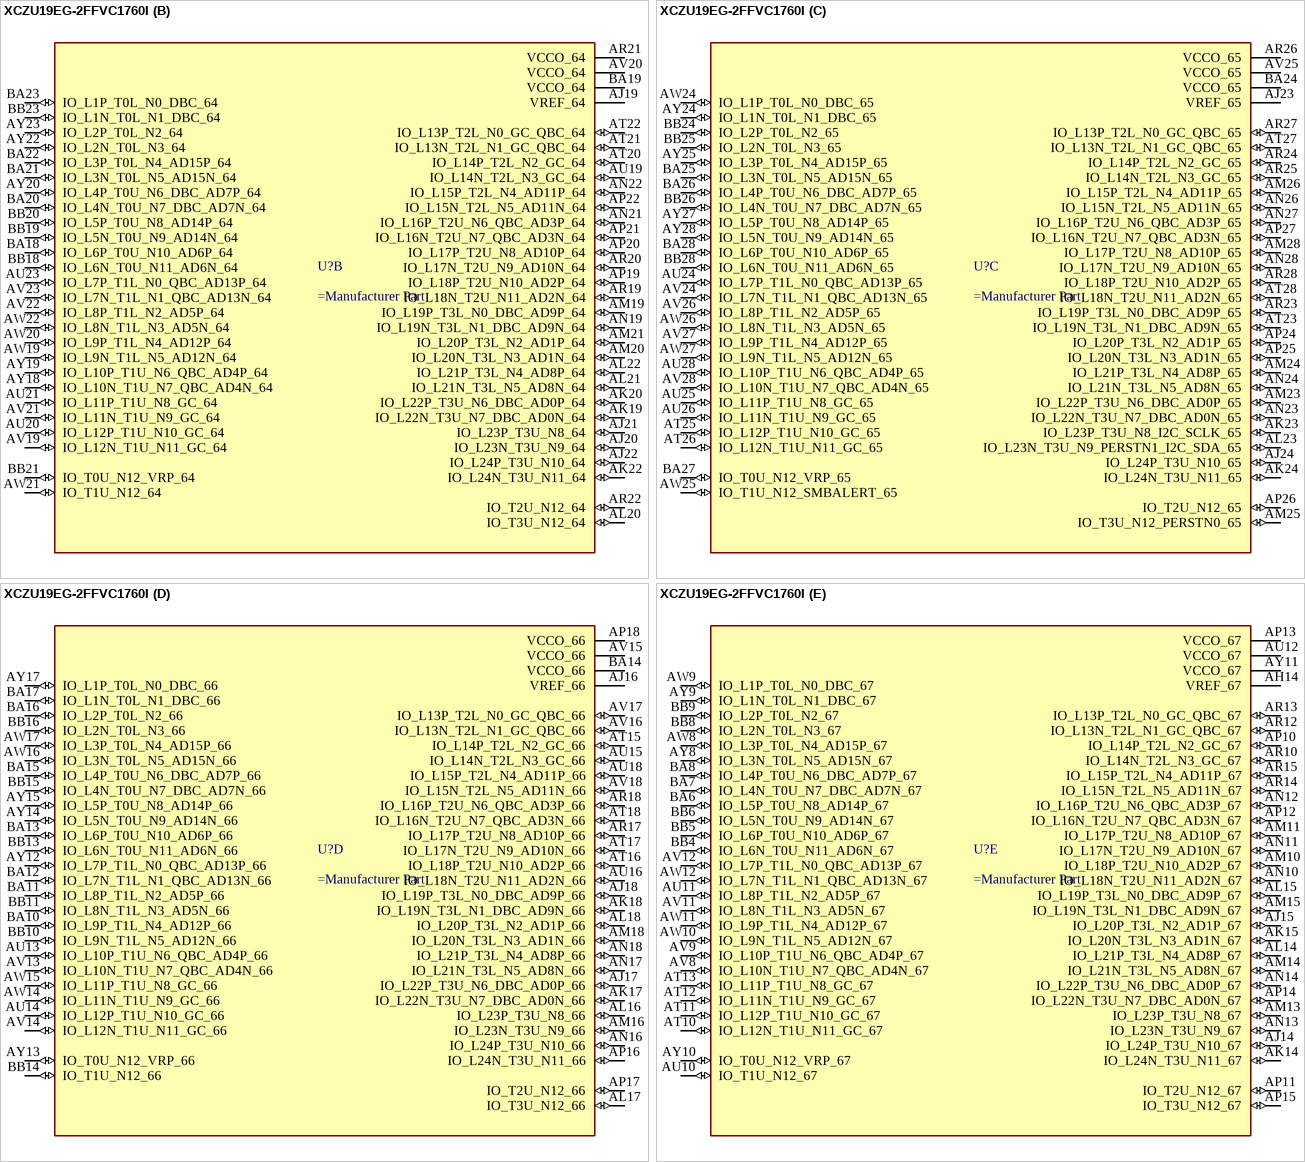
[diagram p18: symbol XCZU19EG-2FFVC1760I]

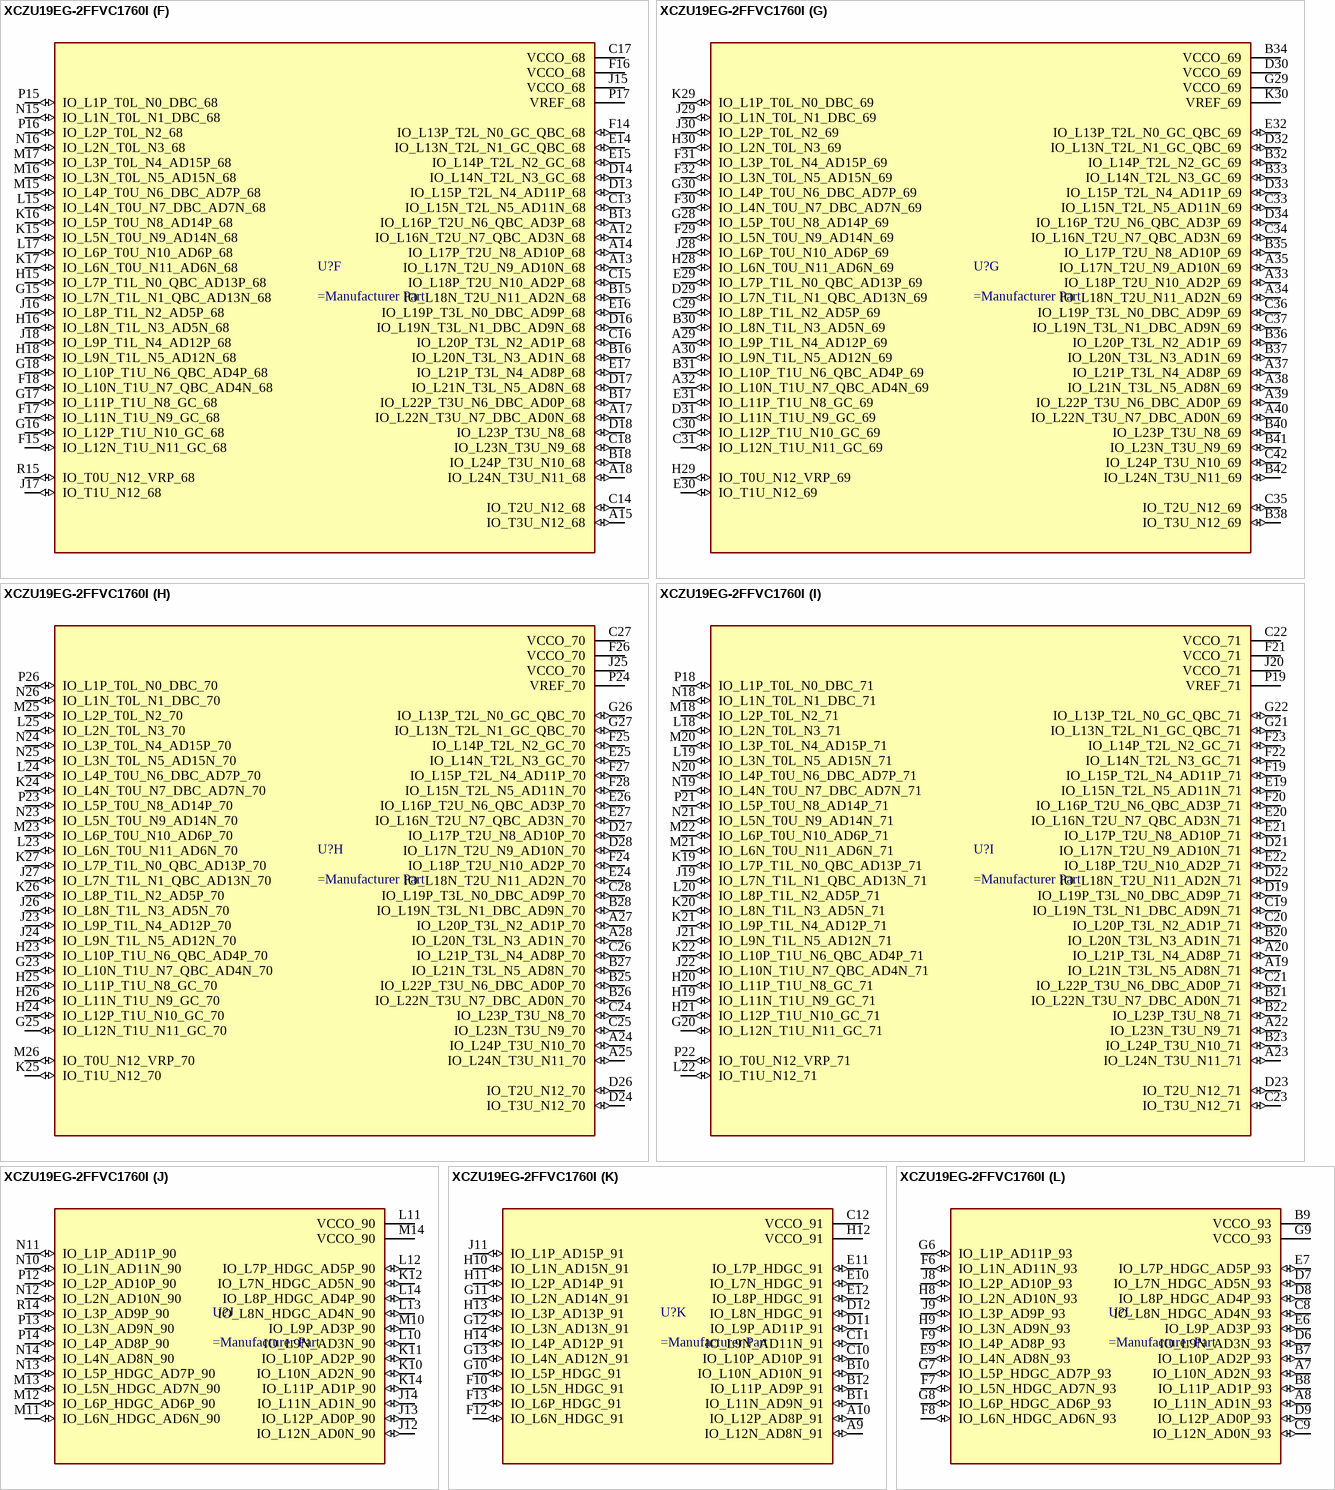
[diagram p19: symbol XCZU19EG-2FFVC1760I]

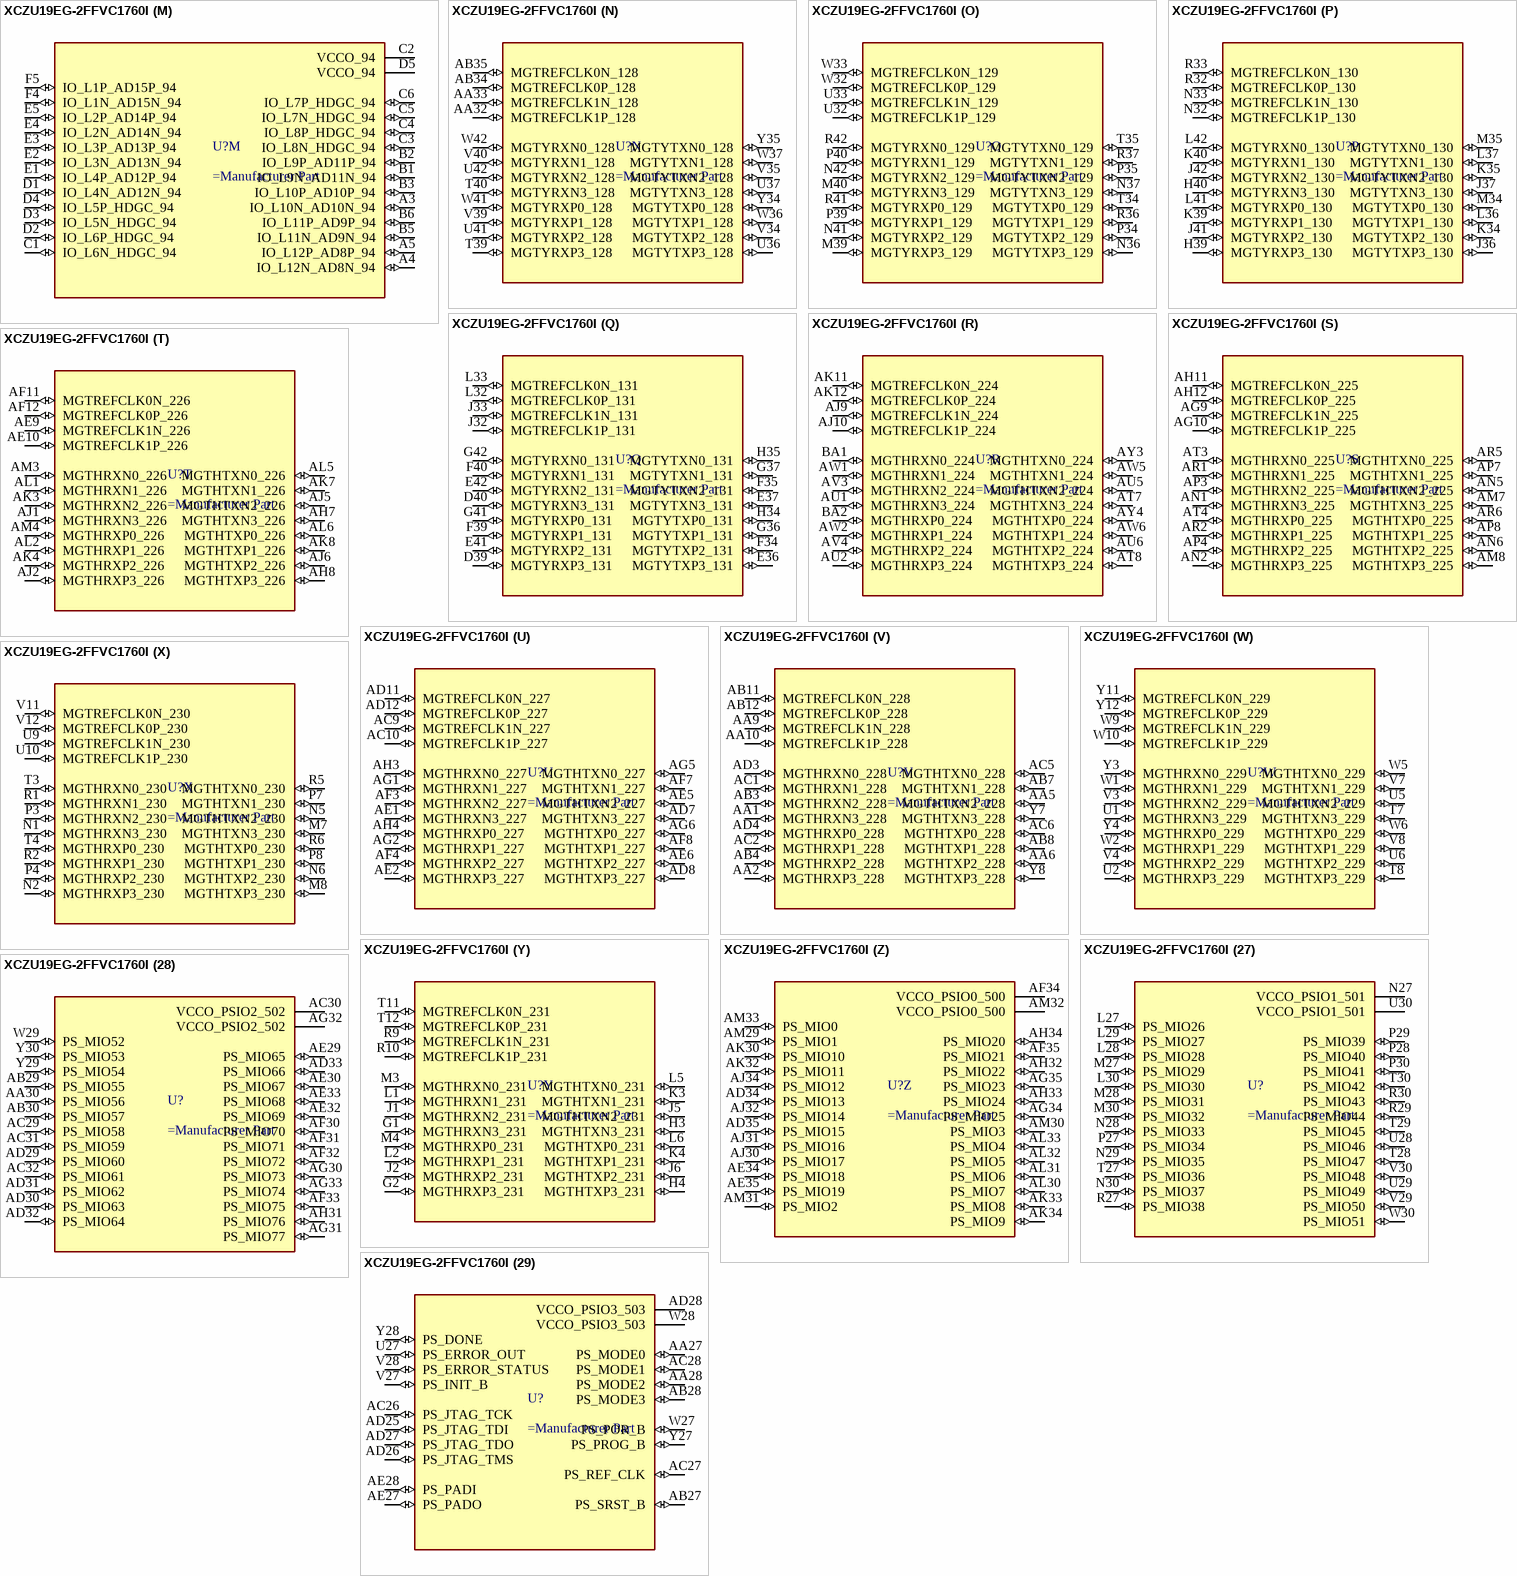
[diagram p20: symbol XCZU19EG-2FFVC1760I]

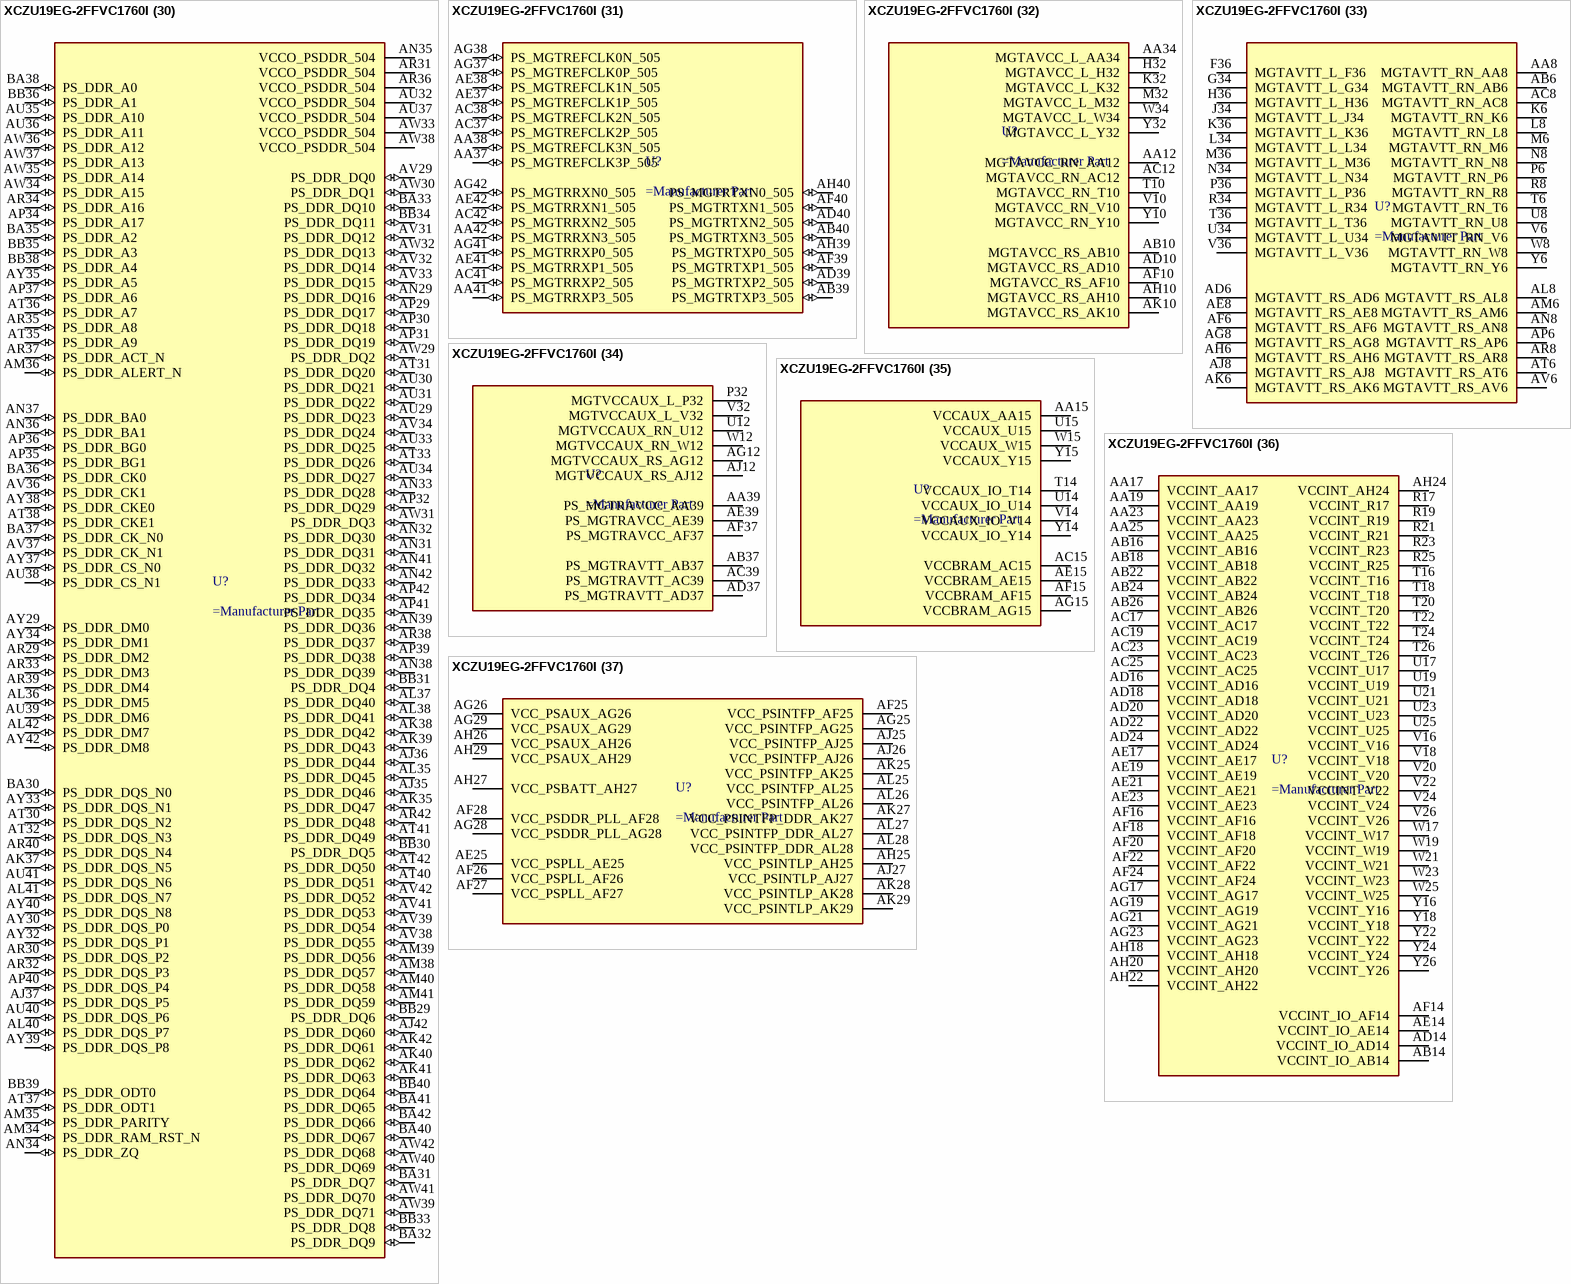
[diagram p21: symbol XCZU19EG-2FFVC1760I]

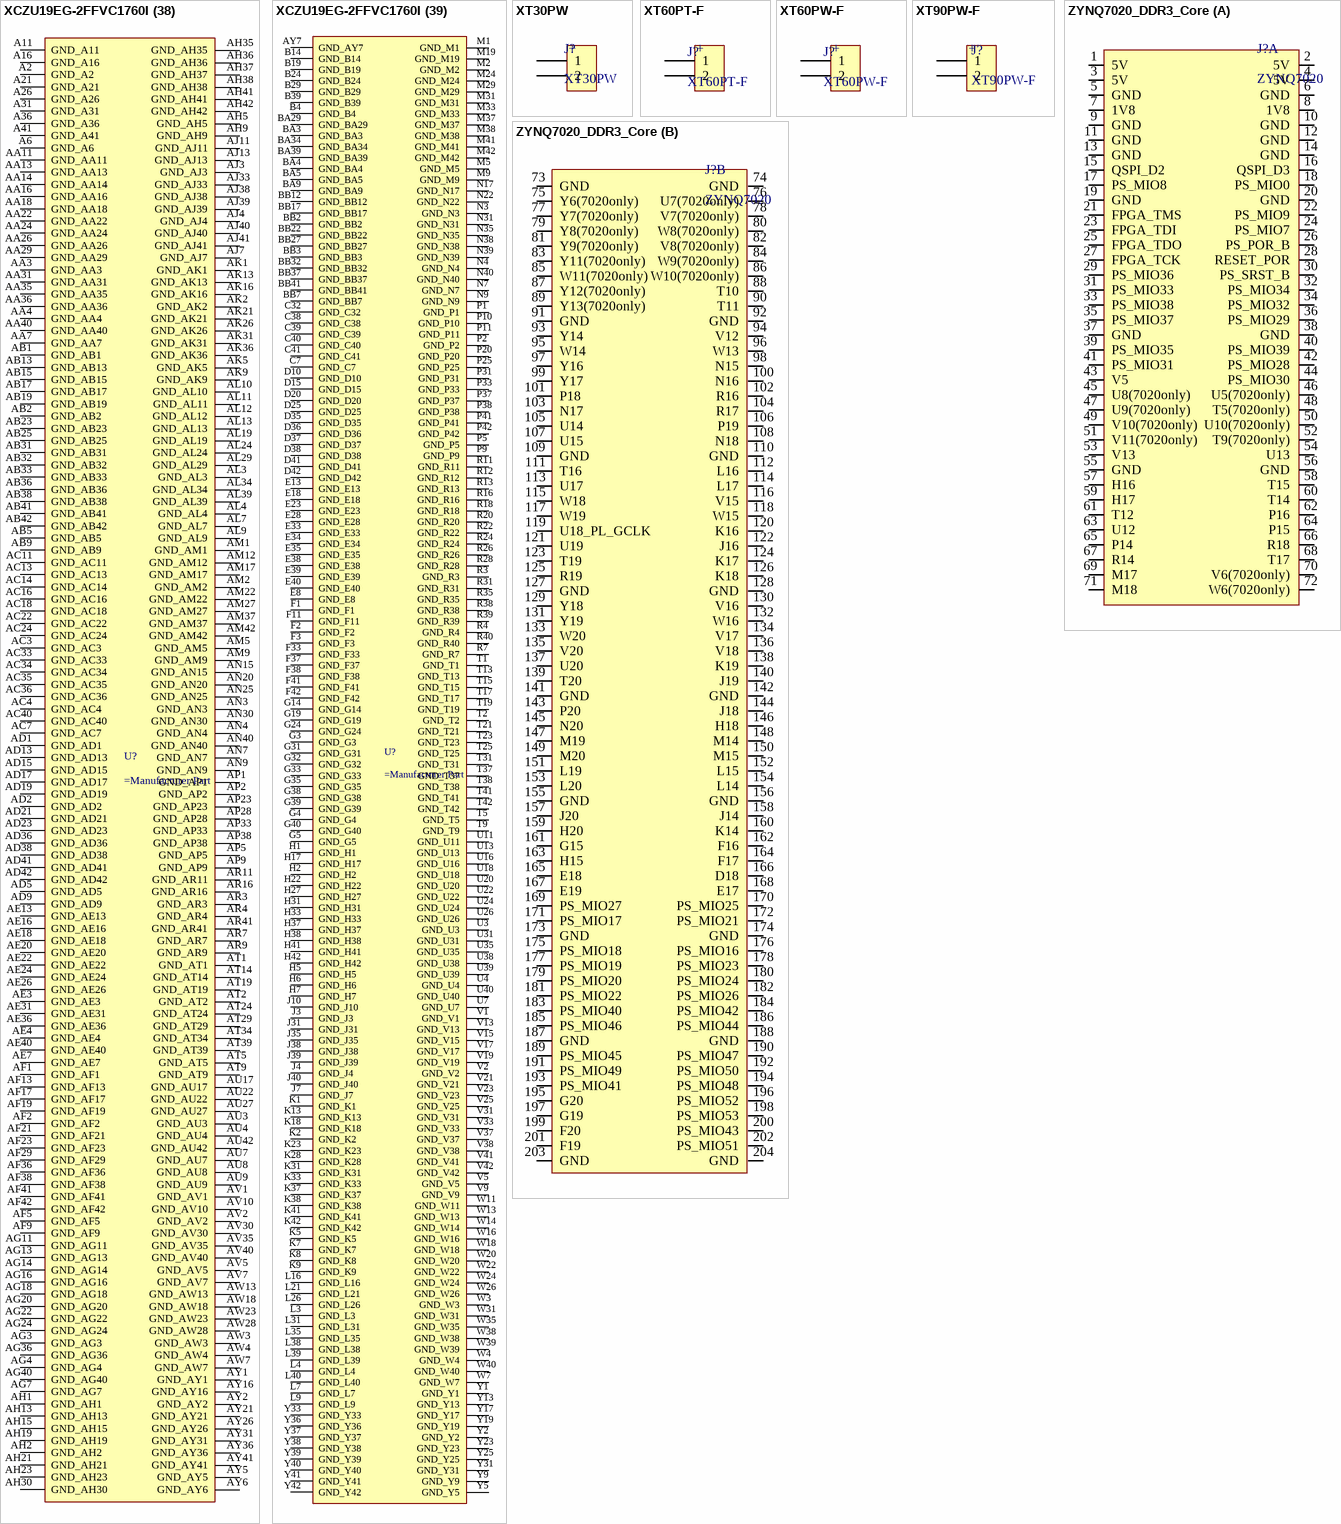
[diagram p22: symbols XCZU19EG-2FFVC1760I to ZYNQ7020_DDR3_Core]